# Altium integrated library Xilinx XC4000 E.IntLib: 265 symbols (part 8 of 22)
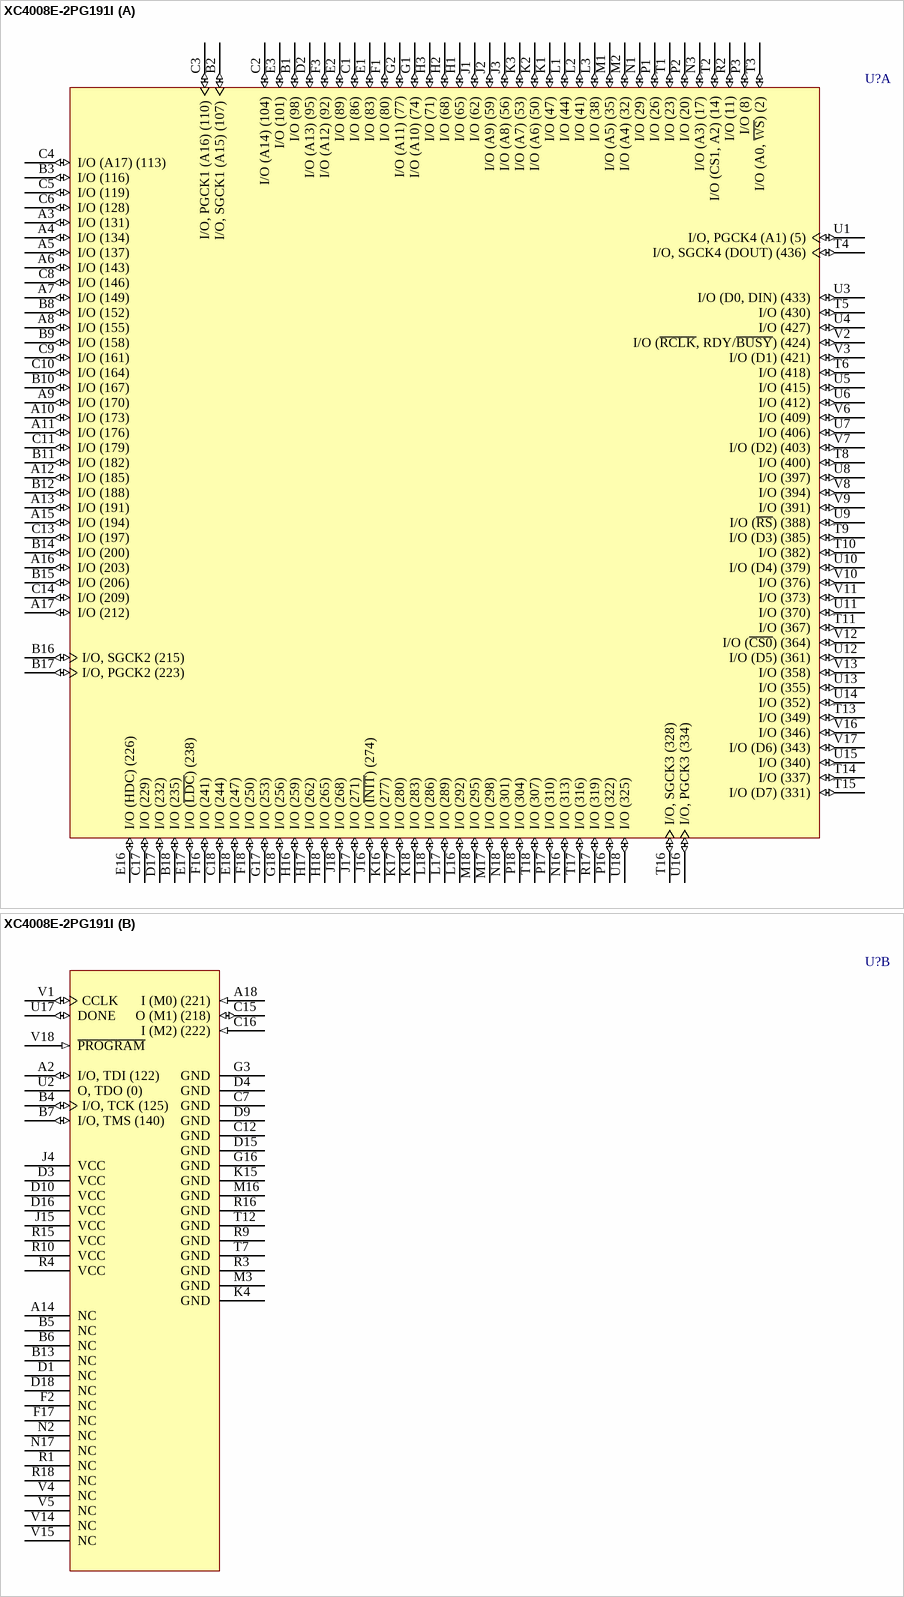
[diagram p279: symbol XC4008E-2PG191I]

## XC4008E-2PG191I
designator U?
XC4000E FPGA, 191-Pin PGA, Industrial Grade; PackageDocument: ver1.1, Apr-2001; Published: 28-Feb-2003; DatasheetDocument: (v1.6) May-99; PackageReference: PG191; Publisher: Altium Limited
footprint PG191 (191-Pin Ceramic Pin Grid Array (PG191))
part A pins: A3 I/O (131) (io), A4 I/O (134) (io), A5 I/O (137) (io), A6 I/O (143) (io), A7 I/O (149) (io), A8 I/O (155) (io), A9 I/O (170) (io), A10 I/O (173) (io), A11 I/O (176) (io), A12 I/O (185) (io), A13 I/O (191) (io), A15 I/O (194) (io), A16 I/O (203) (io), A17 I/O (212) (io), B1 I/O (98) (io), B2 I/O, SGCK1 (A15) (107) (io), B3 I/O (116) (io), B8 I/O (152) (io), B9 I/O (158) (io), B10 I/O (167) (io), B11 I/O (182) (io), B12 I/O (188) (io), B14 I/O (200) (io), B15 I/O (206) (io), B16 I/O, SGCK2 (215) (io), B17 I/O, PGCK2 (223) (io), B18 I/O (235) (io), C1 I/O (86) (io), C2 I/O (A14) (104) (io), C3 I/O, PGCK1 (A16) (110) (io), C4 I/O (A17) (113) (io), C5 I/O (119) (io), C6 I/O (128) (io), C8 I/O (146) (io), C9 I/O (161) (io), C10 I/O (164) (io), C11 I/O (179) (io), C13 I/O (197) (io), C14 I/O (209) (io), C17 I/O (229) (io), C18 I/O (244) (io), D2 I/O (A13) (95) (io), D17 I/O (232) (io), E1 I/O (83) (io), E2 I/O (89) (io), E3 I/O (101) (io), E16 I/O (HDC) (226) (io), E17 I/O (~{LDC}) (238) (io), E18 I/O (247) (io), F1 I/O (80) (io), F3 I/O (A12) (92) (io), F16 I/O (241) (io), F18 I/O (250) (io), G1 I/O (A10) (74) (io), G2 I/O (A11) (77) (io), G17 I/O (253) (io), G18 I/O (256) (io), H1 I/O (65) (io), H2 I/O (68) (io), H3 I/O (71) (io), H16 I/O (259) (io), H17 I/O (262) (io), H18 I/O (265) (io), J1 I/O (62) (io), J2 I/O (A9) (59) (io), J3 I/O (A8) (56) (io), J16 I/O (~{INIT}) (274) (io), J17 I/O (271) (io), J18 I/O (268) (io), K1 I/O (47) (io), K2 I/O (A6) (50) (io), K3 I/O (A7) (53) (io), K16 I/O (277) (io), K17 I/O (280) (io), K18 I/O (283) (io), L1 I/O (44) (io), L2 I/O (41) (io), L3 I/O (38) (io), L16 I/O (292) (io), L17 I/O (289) (io), L18 I/O (286) (io), M1 I/O (A5) (35) (io), M2 I/O (A4) (32) (io), M17 I/O (298) (io), M18 I/O (295) (io), N1 I/O (29) (io), N3 I/O (A3) (17) (io), N16 I/O (313) (io), N18 I/O (301) (io), P1 I/O (26) (io), P2 I/O (20) (io), P3 I/O (8) (io), P16 I/O (322) (io), P17 I/O (310) (io), P18 I/O (304) (io), R2 I/O (11) (io), R17 I/O (319) (io), T1 I/O (23) (io), T2 I/O (CS1, A2) (14) (io), T3 I/O (A0, ~{WS}) (2) (io), T4 I/O, SGCK4 (DOUT) (436) (io), T5 I/O (430) (io), T6 I/O (418) (io), T8 I/O (400) (io), T9 I/O (D3) (385) (io), T10 I/O (382) (io), T11 I/O (367) (io), T13 I/O (349) (io), T14 I/O (337) (io), T15 I/O (D7) (331) (io), T16 I/O, SGCK3 (328) (io), T17 I/O (316) (io), T18 I/O (307) (io), U1 I/O, PGCK4 (A1) (5) (io), U3 I/O (D0, DIN) (433) (io), U4 I/O (427) (io), U5 I/O (415) (io), U6 I/O (412) (io), U7 I/O (406) (io), U8 I/O (397) (io), U9 I/O (~{RS}) (388) (io), U10 I/O (D4) (379) (io), U11 I/O (370) (io), U12 I/O (D5) (361) (io), U13 I/O (355) (io), U14 I/O (352) (io), U15 I/O (340) (io), U16 I/O, PGCK3 (334) (io), U18 I/O (325) (io), V2 I/O (~{RCLK}, RDY/~{BUSY}) (424) (io), V3 I/O (D1) (421) (io), V6 I/O (409) (io), V7 I/O (D2) (403) (io), V8 I/O (394) (io), V9 I/O (391) (io), V10 I/O (376) (io), V11 I/O (373) (io), V12 I/O (~{CS0}) (364) (io), V13 I/O (358) (io), V16 I/O (346) (io), V17 I/O (D6) (343) (io)
part B pins: A2 I/O, TDI (122) (io), A14 NC, A18 I (M0) (221) (in), B4 I/O, TCK (125) (io), B5 NC, B6 NC, B7 I/O, TMS (140) (io), B13 NC, C7 GND (power), C12 GND (power), C15 O (M1) (218) (io), C16 I (M2) (222) (in), D1 NC, D3 VCC (power), D4 GND (power), D9 GND (power), D10 VCC (power), D15 GND (power), D16 VCC (power), D18 NC, F2 NC, F17 NC, G3 GND (power), G16 GND (power), J4 VCC (power), J15 VCC (power), K4 GND (power), K15 GND (power), M3 GND (power), M16 GND (power), N2 NC, N17 NC, R1 NC, R3 GND (power), R4 VCC (power), R9 GND (power), R10 VCC (power), R15 VCC (power), R16 GND (power), R18 NC, T7 GND (power), T12 GND (power), U2 O, TDO (0) (hiz), U17 DONE (io), V1 CCLK (io), V4 NC, V5 NC, V14 NC, V15 NC, V18 ~{PROGRAM} (in)

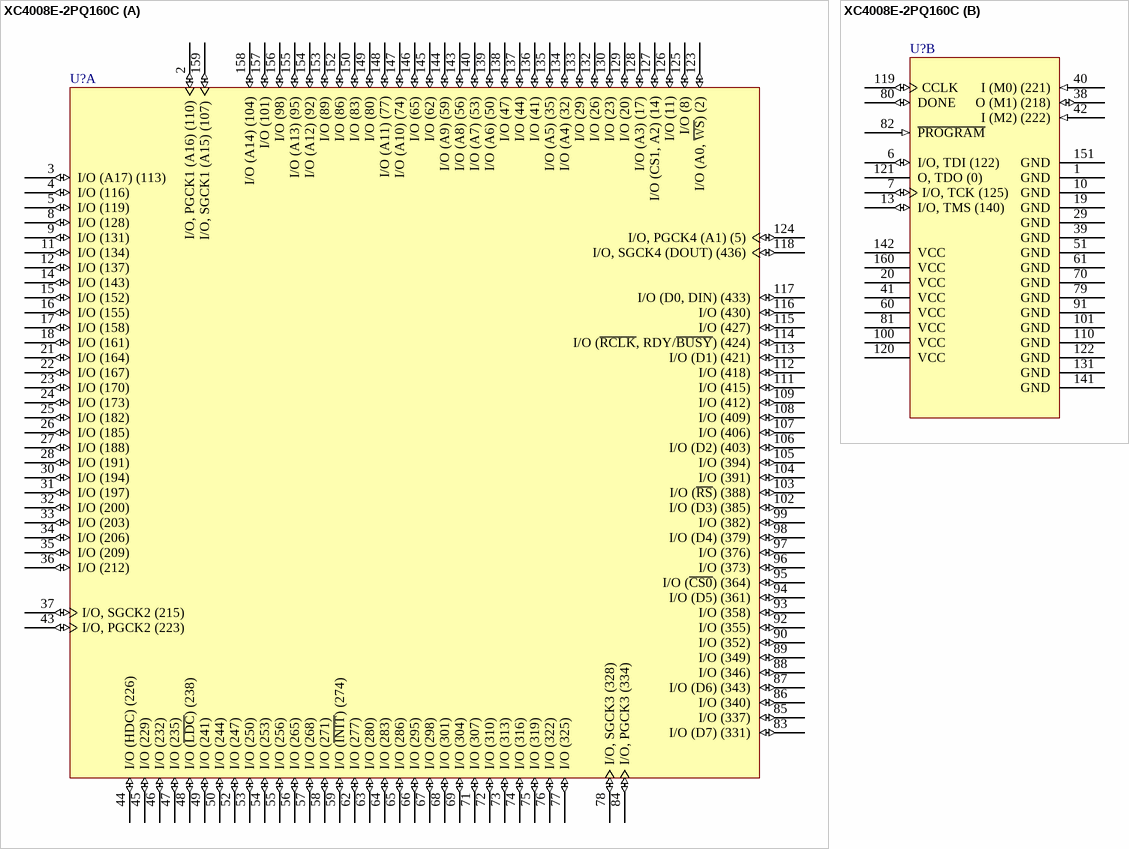
[diagram p74: symbol XC4008E-2PQ160C]

## XC4008E-2PQ160C
designator U?
XC4000E FPGA, 160-Pin PQFP, Commercial Grade; PackageDocument: ver1.1, Oct-2002; Published: 28-Feb-2003; DatasheetDocument: (v1.6) May-99; PackageReference: PQ160; Publisher: Altium Limited; Code_JEDEC: MS-022-DD1
footprint PQ160 (160-Pin Plastic Quad Flat Pack (PQ160))
part A pins: 2 I/O, PGCK1 (A16) (110) (io), 3 I/O (A17) (113) (io), 4 I/O (116) (io), 5 I/O (119) (io), 8 I/O (128) (io), 9 I/O (131) (io), 11 I/O (134) (io), 12 I/O (137) (io), 14 I/O (143) (io), 15 I/O (152) (io), 16 I/O (155) (io), 17 I/O (158) (io), 18 I/O (161) (io), 21 I/O (164) (io), 22 I/O (167) (io), 23 I/O (170) (io), 24 I/O (173) (io), 25 I/O (182) (io), 26 I/O (185) (io), 27 I/O (188) (io), 28 I/O (191) (io), 30 I/O (194) (io), 31 I/O (197) (io), 32 I/O (200) (io), 33 I/O (203) (io), 34 I/O (206) (io), 35 I/O (209) (io), 36 I/O (212) (io), 37 I/O, SGCK2 (215) (io), 43 I/O, PGCK2 (223) (io), 44 I/O (HDC) (226) (io), 45 I/O (229) (io), 46 I/O (232) (io), 47 I/O (235) (io), 48 I/O (~{LDC}) (238) (io), 49 I/O (241) (io), 50 I/O (244) (io), 52 I/O (247) (io), 53 I/O (250) (io), 54 I/O (253) (io), 55 I/O (256) (io), 56 I/O (265) (io), 57 I/O (268) (io), 58 I/O (271) (io), 59 I/O (~{INIT}) (274) (io), 62 I/O (277) (io), 63 I/O (280) (io), 64 I/O (283) (io), 65 I/O (286) (io), 66 I/O (295) (io), 67 I/O (298) (io), 68 I/O (301) (io), 69 I/O (304) (io), 71 I/O (307) (io), 72 I/O (310) (io), 73 I/O (313) (io), 74 I/O (316) (io), 75 I/O (319) (io), 76 I/O (322) (io), 77 I/O (325) (io), 78 I/O, SGCK3 (328) (io), 83 I/O (D7) (331) (io), 84 I/O, PGCK3 (334) (io), 85 I/O (337) (io), 86 I/O (340) (io), 87 I/O (D6) (343) (io), 88 I/O (346) (io), 89 I/O (349) (io), 90 I/O (352) (io), 92 I/O (355) (io), 93 I/O (358) (io), 94 I/O (D5) (361) (io), 95 I/O (~{CS0}) (364) (io), 96 I/O (373) (io), 97 I/O (376) (io), 98 I/O (D4) (379) (io), 99 I/O (382) (io), 102 I/O (D3) (385) (io), 103 I/O (~{RS}) (388) (io), 104 I/O (391) (io), 105 I/O (394) (io), 106 I/O (D2) (403) (io), 107 I/O (406) (io), 108 I/O (409) (io), 109 I/O (412) (io), 111 I/O (415) (io), 112 I/O (418) (io), 113 I/O (D1) (421) (io), 114 I/O (~{RCLK}, RDY/~{BUSY}) (424) (io), 115 I/O (427) (io), 116 I/O (430) (io), 117 I/O (D0, DIN) (433) (io), 118 I/O, SGCK4 (DOUT) (436) (io), 123 I/O (A0, ~{WS}) (2) (io), 124 I/O, PGCK4 (A1) (5) (io), 125 I/O (8) (io), 126 I/O (11) (io), 127 I/O (CS1, A2) (14) (io), 128 I/O (A3) (17) (io), 129 I/O (20) (io), 130 I/O (23) (io), 132 I/O (26) (io), 133 I/O (29) (io), 134 I/O (A4) (32) (io), 135 I/O (A5) (35) (io), 136 I/O (41) (io), 137 I/O (44) (io), 138 I/O (47) (io), 139 I/O (A6) (50) (io), 140 I/O (A7) (53) (io), 143 I/O (A8) (56) (io), 144 I/O (A9) (59) (io), 145 I/O (62) (io), 146 I/O (65) (io), 147 I/O (A10) (74) (io), 148 I/O (A11) (77) (io), 149 I/O (80) (io), 150 I/O (83) (io), 152 I/O (86) (io), 153 I/O (89) (io), 154 I/O (A12) (92) (io), 155 I/O (A13) (95) (io), 156 I/O (98) (io), 157 I/O (101) (io), 158 I/O (A14) (104) (io), 159 I/O, SGCK1 (A15) (107) (io)
part B pins: 1 GND (power), 6 I/O, TDI (122) (io), 7 I/O, TCK (125) (io), 10 GND (power), 13 I/O, TMS (140) (io), 19 GND (power), 20 VCC (power), 29 GND (power), 38 O (M1) (218) (io), 39 GND (power), 40 I (M0) (221) (in), 41 VCC (power), 42 I (M2) (222) (in), 51 GND (power), 60 VCC (power), 61 GND (power), 70 GND (power), 79 GND (power), 80 DONE (io), 81 VCC (power), 82 ~{PROGRAM} (in), 91 GND (power), 100 VCC (power), 101 GND (power), 110 GND (power), 119 CCLK (io), 120 VCC (power), 121 O, TDO (0) (hiz), 122 GND (power), 131 GND (power), 141 GND (power), 142 VCC (power), 151 GND (power), 160 VCC (power)

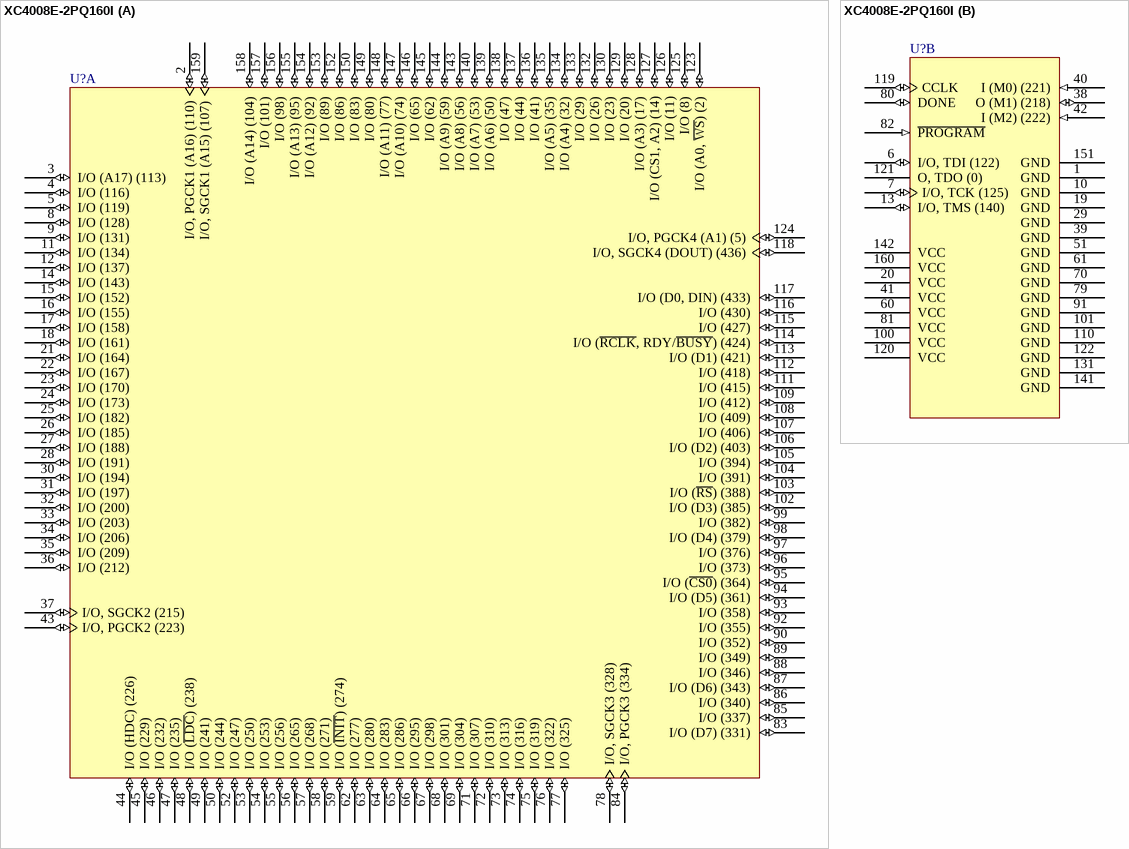
[diagram p75: symbol XC4008E-2PQ160I]

## XC4008E-2PQ160I
designator U?
XC4000E FPGA, 160-Pin PQFP, Industrial Grade; PackageDocument: ver1.1, Oct-2002; Published: 28-Feb-2003; DatasheetDocument: (v1.6) May-99; PackageReference: PQ160; Publisher: Altium Limited; Code_JEDEC: MS-022-DD1
footprint PQ160 (160-Pin Plastic Quad Flat Pack (PQ160))
part A pins: 2 I/O, PGCK1 (A16) (110) (io), 3 I/O (A17) (113) (io), 4 I/O (116) (io), 5 I/O (119) (io), 8 I/O (128) (io), 9 I/O (131) (io), 11 I/O (134) (io), 12 I/O (137) (io), 14 I/O (143) (io), 15 I/O (152) (io), 16 I/O (155) (io), 17 I/O (158) (io), 18 I/O (161) (io), 21 I/O (164) (io), 22 I/O (167) (io), 23 I/O (170) (io), 24 I/O (173) (io), 25 I/O (182) (io), 26 I/O (185) (io), 27 I/O (188) (io), 28 I/O (191) (io), 30 I/O (194) (io), 31 I/O (197) (io), 32 I/O (200) (io), 33 I/O (203) (io), 34 I/O (206) (io), 35 I/O (209) (io), 36 I/O (212) (io), 37 I/O, SGCK2 (215) (io), 43 I/O, PGCK2 (223) (io), 44 I/O (HDC) (226) (io), 45 I/O (229) (io), 46 I/O (232) (io), 47 I/O (235) (io), 48 I/O (~{LDC}) (238) (io), 49 I/O (241) (io), 50 I/O (244) (io), 52 I/O (247) (io), 53 I/O (250) (io), 54 I/O (253) (io), 55 I/O (256) (io), 56 I/O (265) (io), 57 I/O (268) (io), 58 I/O (271) (io), 59 I/O (~{INIT}) (274) (io), 62 I/O (277) (io), 63 I/O (280) (io), 64 I/O (283) (io), 65 I/O (286) (io), 66 I/O (295) (io), 67 I/O (298) (io), 68 I/O (301) (io), 69 I/O (304) (io), 71 I/O (307) (io), 72 I/O (310) (io), 73 I/O (313) (io), 74 I/O (316) (io), 75 I/O (319) (io), 76 I/O (322) (io), 77 I/O (325) (io), 78 I/O, SGCK3 (328) (io), 83 I/O (D7) (331) (io), 84 I/O, PGCK3 (334) (io), 85 I/O (337) (io), 86 I/O (340) (io), 87 I/O (D6) (343) (io), 88 I/O (346) (io), 89 I/O (349) (io), 90 I/O (352) (io), 92 I/O (355) (io), 93 I/O (358) (io), 94 I/O (D5) (361) (io), 95 I/O (~{CS0}) (364) (io), 96 I/O (373) (io), 97 I/O (376) (io), 98 I/O (D4) (379) (io), 99 I/O (382) (io), 102 I/O (D3) (385) (io), 103 I/O (~{RS}) (388) (io), 104 I/O (391) (io), 105 I/O (394) (io), 106 I/O (D2) (403) (io), 107 I/O (406) (io), 108 I/O (409) (io), 109 I/O (412) (io), 111 I/O (415) (io), 112 I/O (418) (io), 113 I/O (D1) (421) (io), 114 I/O (~{RCLK}, RDY/~{BUSY}) (424) (io), 115 I/O (427) (io), 116 I/O (430) (io), 117 I/O (D0, DIN) (433) (io), 118 I/O, SGCK4 (DOUT) (436) (io), 123 I/O (A0, ~{WS}) (2) (io), 124 I/O, PGCK4 (A1) (5) (io), 125 I/O (8) (io), 126 I/O (11) (io), 127 I/O (CS1, A2) (14) (io), 128 I/O (A3) (17) (io), 129 I/O (20) (io), 130 I/O (23) (io), 132 I/O (26) (io), 133 I/O (29) (io), 134 I/O (A4) (32) (io), 135 I/O (A5) (35) (io), 136 I/O (41) (io), 137 I/O (44) (io), 138 I/O (47) (io), 139 I/O (A6) (50) (io), 140 I/O (A7) (53) (io), 143 I/O (A8) (56) (io), 144 I/O (A9) (59) (io), 145 I/O (62) (io), 146 I/O (65) (io), 147 I/O (A10) (74) (io), 148 I/O (A11) (77) (io), 149 I/O (80) (io), 150 I/O (83) (io), 152 I/O (86) (io), 153 I/O (89) (io), 154 I/O (A12) (92) (io), 155 I/O (A13) (95) (io), 156 I/O (98) (io), 157 I/O (101) (io), 158 I/O (A14) (104) (io), 159 I/O, SGCK1 (A15) (107) (io)
part B pins: 1 GND (power), 6 I/O, TDI (122) (io), 7 I/O, TCK (125) (io), 10 GND (power), 13 I/O, TMS (140) (io), 19 GND (power), 20 VCC (power), 29 GND (power), 38 O (M1) (218) (io), 39 GND (power), 40 I (M0) (221) (in), 41 VCC (power), 42 I (M2) (222) (in), 51 GND (power), 60 VCC (power), 61 GND (power), 70 GND (power), 79 GND (power), 80 DONE (io), 81 VCC (power), 82 ~{PROGRAM} (in), 91 GND (power), 100 VCC (power), 101 GND (power), 110 GND (power), 119 CCLK (io), 120 VCC (power), 121 O, TDO (0) (hiz), 122 GND (power), 131 GND (power), 141 GND (power), 142 VCC (power), 151 GND (power), 160 VCC (power)

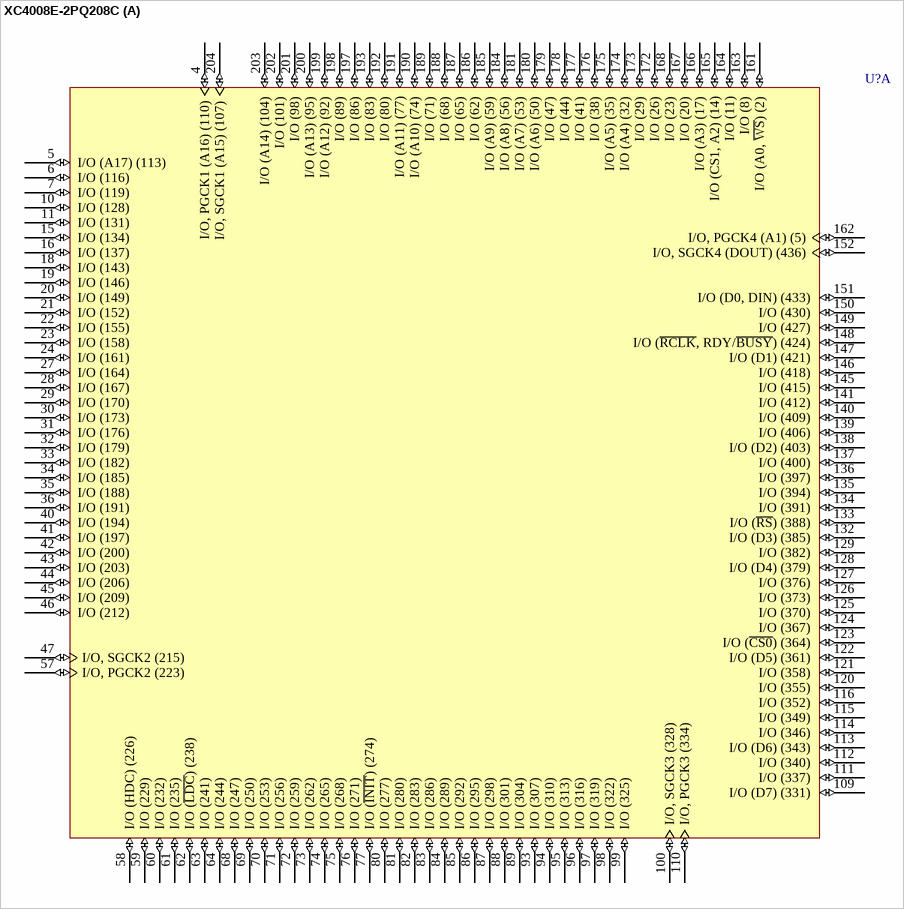
[diagram p76: symbol XC4008E-2PQ208C]

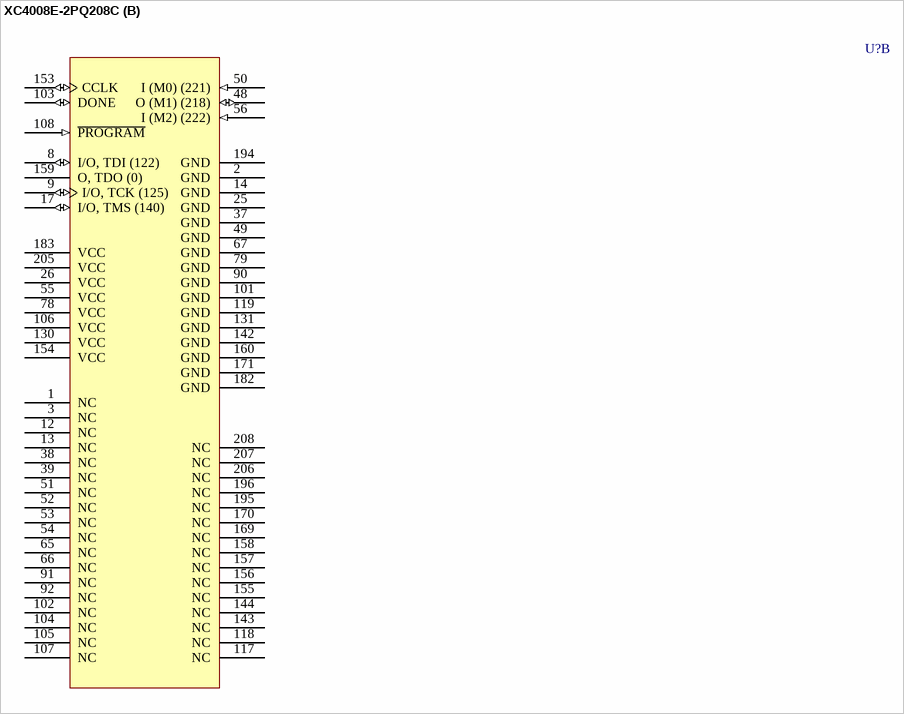
[diagram p77: symbol XC4008E-2PQ208C]

## XC4008E-2PQ208C
designator U?
XC4000E FPGA, 208-Pin PQFP, Commercial Grade; PackageDocument: ver1.1, Oct-2002; Published: 28-Feb-2003; DatasheetDocument: (v1.6) May-99; PackageReference: PQ208; Publisher: Altium Limited; Code_JEDEC: MS-029-FA-1
footprint PQ208 (208-Pin Plastic Quad Flat Pack (PQ208))
part A pins: 4 I/O, PGCK1 (A16) (110) (io), 5 I/O (A17) (113) (io), 6 I/O (116) (io), 7 I/O (119) (io), 10 I/O (128) (io), 11 I/O (131) (io), 15 I/O (134) (io), 16 I/O (137) (io), 18 I/O (143) (io), 19 I/O (146) (io), 20 I/O (149) (io), 21 I/O (152) (io), 22 I/O (155) (io), 23 I/O (158) (io), 24 I/O (161) (io), 27 I/O (164) (io), 28 I/O (167) (io), 29 I/O (170) (io), 30 I/O (173) (io), 31 I/O (176) (io), 32 I/O (179) (io), 33 I/O (182) (io), 34 I/O (185) (io), 35 I/O (188) (io), 36 I/O (191) (io), 40 I/O (194) (io), 41 I/O (197) (io), 42 I/O (200) (io), 43 I/O (203) (io), 44 I/O (206) (io), 45 I/O (209) (io), 46 I/O (212) (io), 47 I/O, SGCK2 (215) (io), 57 I/O, PGCK2 (223) (io), 58 I/O (HDC) (226) (io), 59 I/O (229) (io), 60 I/O (232) (io), 61 I/O (235) (io), 62 I/O (~{LDC}) (238) (io), 63 I/O (241) (io), 64 I/O (244) (io), 68 I/O (247) (io), 69 I/O (250) (io), 70 I/O (253) (io), 71 I/O (256) (io), 72 I/O (259) (io), 73 I/O (262) (io), 74 I/O (265) (io), 75 I/O (268) (io), 76 I/O (271) (io), 77 I/O (~{INIT}) (274) (io), 80 I/O (277) (io), 81 I/O (280) (io), 82 I/O (283) (io), 83 I/O (286) (io), 84 I/O (289) (io), 85 I/O (292) (io), 86 I/O (295) (io), 87 I/O (298) (io), 88 I/O (301) (io), 89 I/O (304) (io), 93 I/O (307) (io), 94 I/O (310) (io), 95 I/O (313) (io), 96 I/O (316) (io), 97 I/O (319) (io), 98 I/O (322) (io), 99 I/O (325) (io), 100 I/O, SGCK3 (328) (io), 109 I/O (D7) (331) (io), 110 I/O, PGCK3 (334) (io), 111 I/O (337) (io), 112 I/O (340) (io), 113 I/O (D6) (343) (io), 114 I/O (346) (io), 115 I/O (349) (io), 116 I/O (352) (io), 120 I/O (355) (io), 121 I/O (358) (io), 122 I/O (D5) (361) (io), 123 I/O (~{CS0}) (364) (io), 124 I/O (367) (io), 125 I/O (370) (io), 126 I/O (373) (io), 127 I/O (376) (io), 128 I/O (D4) (379) (io), 129 I/O (382) (io), 132 I/O (D3) (385) (io), 133 I/O (~{RS}) (388) (io), 134 I/O (391) (io), 135 I/O (394) (io), 136 I/O (397) (io), 137 I/O (400) (io), 138 I/O (D2) (403) (io), 139 I/O (406) (io), 140 I/O (409) (io), 141 I/O (412) (io), 145 I/O (415) (io), 146 I/O (418) (io), 147 I/O (D1) (421) (io), 148 I/O (~{RCLK}, RDY/~{BUSY}) (424) (io), 149 I/O (427) (io), 150 I/O (430) (io), 151 I/O (D0, DIN) (433) (io), 152 I/O, SGCK4 (DOUT) (436) (io), 161 I/O (A0, ~{WS}) (2) (io), 162 I/O, PGCK4 (A1) (5) (io), 163 I/O (8) (io), 164 I/O (11) (io), 165 I/O (CS1, A2) (14) (io), 166 I/O (A3) (17) (io), 167 I/O (20) (io), 168 I/O (23) (io), 172 I/O (26) (io), 173 I/O (29) (io), 174 I/O (A4) (32) (io), 175 I/O (A5) (35) (io), 176 I/O (38) (io), 177 I/O (41) (io), 178 I/O (44) (io), 179 I/O (47) (io), 180 I/O (A6) (50) (io), 181 I/O (A7) (53) (io), 184 I/O (A8) (56) (io), 185 I/O (A9) (59) (io), 186 I/O (62) (io), 187 I/O (65) (io), 188 I/O (68) (io), 189 I/O (71) (io), 190 I/O (A10) (74) (io), 191 I/O (A11) (77) (io), 192 I/O (80) (io), 193 I/O (83) (io), 197 I/O (86) (io), 198 I/O (89) (io), 199 I/O (A12) (92) (io), 200 I/O (A13) (95) (io), 201 I/O (98) (io), 202 I/O (101) (io), 203 I/O (A14) (104) (io), 204 I/O, SGCK1 (A15) (107) (io)
part B pins: 1 NC, 2 GND (power), 3 NC, 8 I/O, TDI (122) (io), 9 I/O, TCK (125) (io), 12 NC, 13 NC, 14 GND (power), 17 I/O, TMS (140) (io), 25 GND (power), 26 VCC (power), 37 GND (power), 38 NC, 39 NC, 48 O (M1) (218) (io), 49 GND (power), 50 I (M0) (221) (in), 51 NC, 52 NC, 53 NC, 54 NC, 55 VCC (power), 56 I (M2) (222) (in), 65 NC, 66 NC, 67 GND (power), 78 VCC (power), 79 GND (power), 90 GND (power), 91 NC, 92 NC, 101 GND (power), 102 NC, 103 DONE (io), 104 NC, 105 NC, 106 VCC (power), 107 NC, 108 ~{PROGRAM} (in), 117 NC, 118 NC, 119 GND (power), 130 VCC (power), 131 GND (power), 142 GND (power), 143 NC, 144 NC, 153 CCLK (io), 154 VCC (power), 155 NC, 156 NC, 157 NC, 158 NC, 159 O, TDO (0) (hiz), 160 GND (power), 169 NC, 170 NC, 171 GND (power), 182 GND (power), 183 VCC (power), 194 GND (power), 195 NC, 196 NC, 205 VCC (power), 206 NC, 207 NC, 208 NC

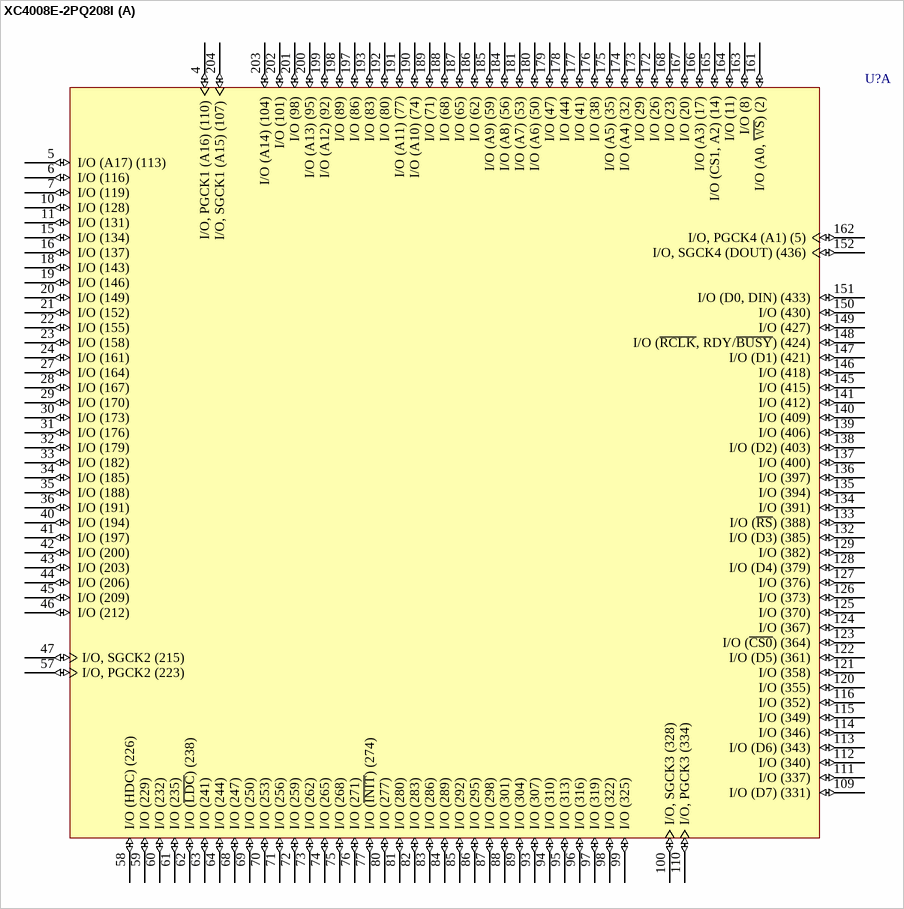
[diagram p78: symbol XC4008E-2PQ208I]

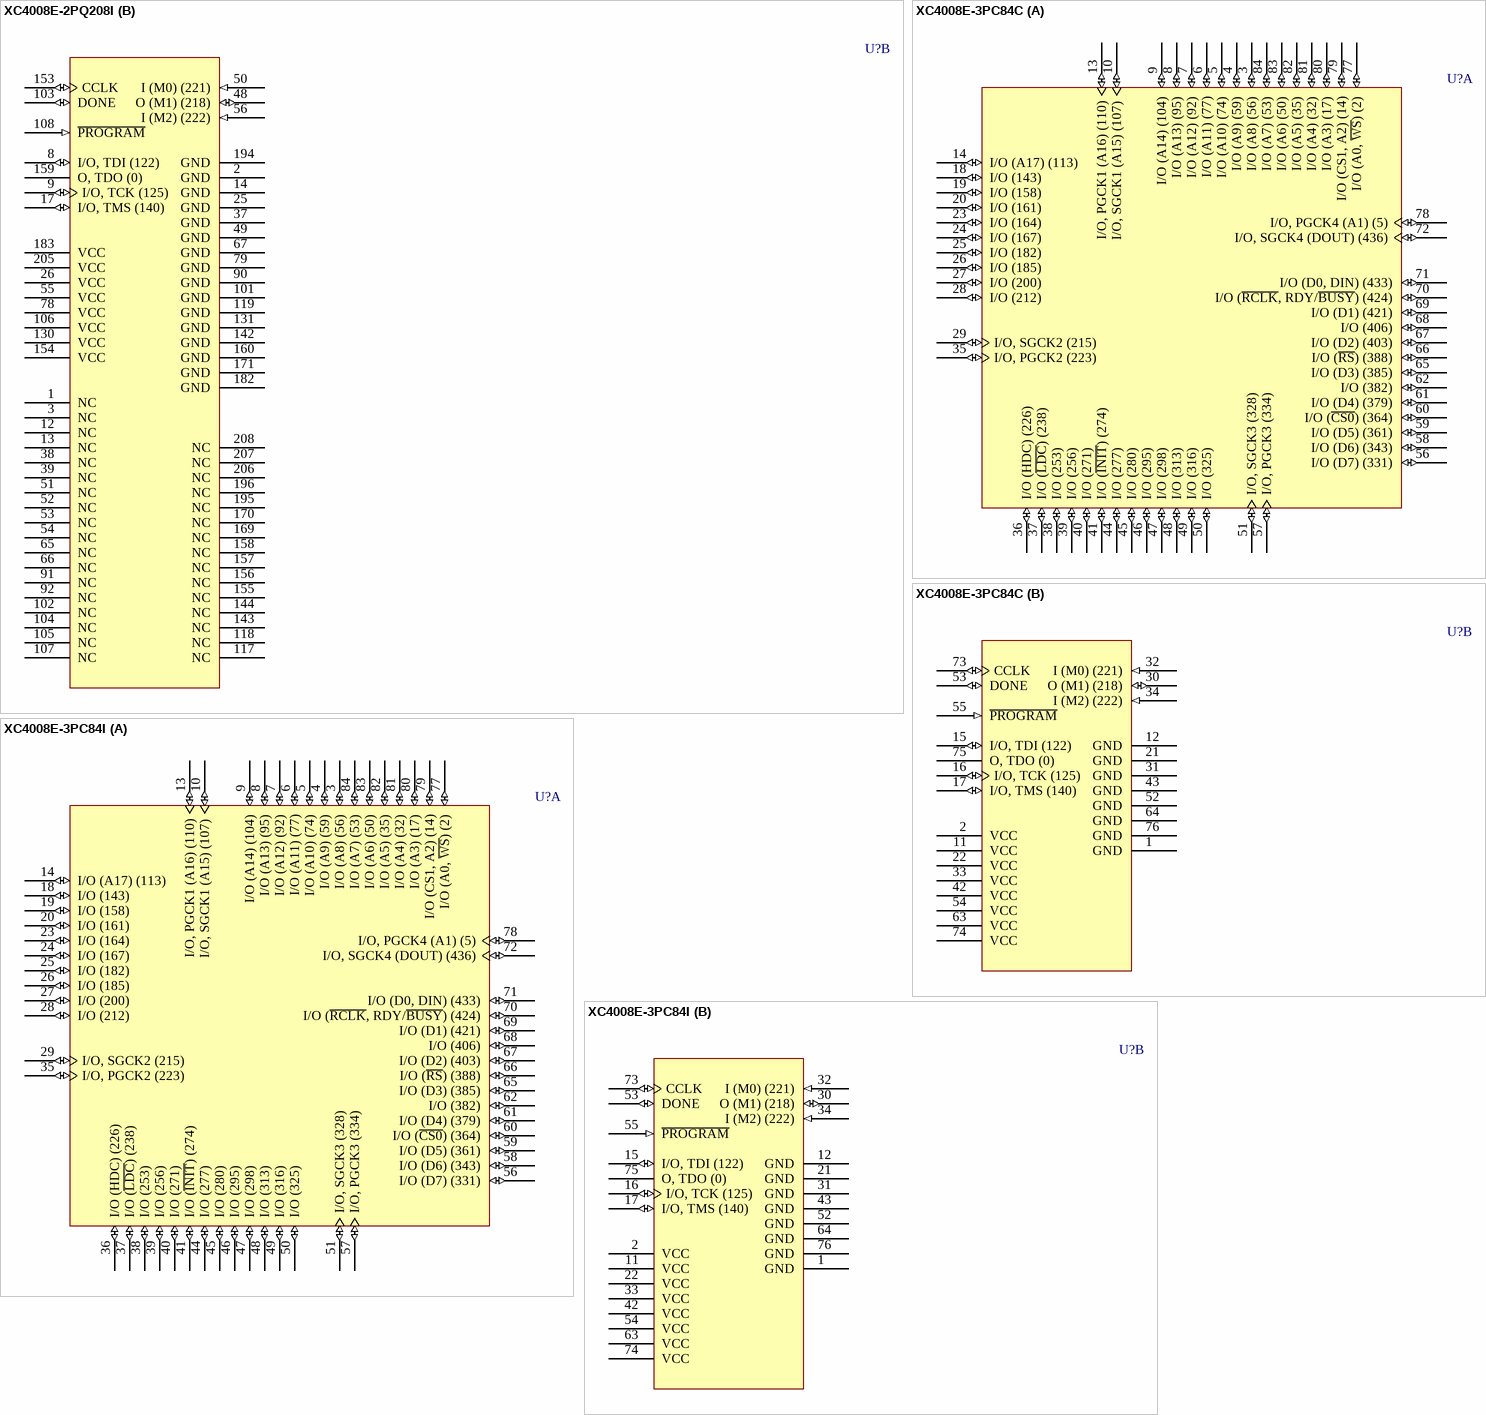
[diagram p79: symbols XC4008E-2PQ208I to XC4008E-3PC84I]

## XC4008E-2PQ208I
designator U?
XC4000E FPGA, 208-Pin PQFP, Industrial Grade; PackageDocument: ver1.1, Oct-2002; Published: 28-Feb-2003; DatasheetDocument: (v1.6) May-99; PackageReference: PQ208; Publisher: Altium Limited; Code_JEDEC: MS-029-FA-1
footprint PQ208 (208-Pin Plastic Quad Flat Pack (PQ208))
part A pins: 4 I/O, PGCK1 (A16) (110) (io), 5 I/O (A17) (113) (io), 6 I/O (116) (io), 7 I/O (119) (io), 10 I/O (128) (io), 11 I/O (131) (io), 15 I/O (134) (io), 16 I/O (137) (io), 18 I/O (143) (io), 19 I/O (146) (io), 20 I/O (149) (io), 21 I/O (152) (io), 22 I/O (155) (io), 23 I/O (158) (io), 24 I/O (161) (io), 27 I/O (164) (io), 28 I/O (167) (io), 29 I/O (170) (io), 30 I/O (173) (io), 31 I/O (176) (io), 32 I/O (179) (io), 33 I/O (182) (io), 34 I/O (185) (io), 35 I/O (188) (io), 36 I/O (191) (io), 40 I/O (194) (io), 41 I/O (197) (io), 42 I/O (200) (io), 43 I/O (203) (io), 44 I/O (206) (io), 45 I/O (209) (io), 46 I/O (212) (io), 47 I/O, SGCK2 (215) (io), 57 I/O, PGCK2 (223) (io), 58 I/O (HDC) (226) (io), 59 I/O (229) (io), 60 I/O (232) (io), 61 I/O (235) (io), 62 I/O (~{LDC}) (238) (io), 63 I/O (241) (io), 64 I/O (244) (io), 68 I/O (247) (io), 69 I/O (250) (io), 70 I/O (253) (io), 71 I/O (256) (io), 72 I/O (259) (io), 73 I/O (262) (io), 74 I/O (265) (io), 75 I/O (268) (io), 76 I/O (271) (io), 77 I/O (~{INIT}) (274) (io), 80 I/O (277) (io), 81 I/O (280) (io), 82 I/O (283) (io), 83 I/O (286) (io), 84 I/O (289) (io), 85 I/O (292) (io), 86 I/O (295) (io), 87 I/O (298) (io), 88 I/O (301) (io), 89 I/O (304) (io), 93 I/O (307) (io), 94 I/O (310) (io), 95 I/O (313) (io), 96 I/O (316) (io), 97 I/O (319) (io), 98 I/O (322) (io), 99 I/O (325) (io), 100 I/O, SGCK3 (328) (io), 109 I/O (D7) (331) (io), 110 I/O, PGCK3 (334) (io), 111 I/O (337) (io), 112 I/O (340) (io), 113 I/O (D6) (343) (io), 114 I/O (346) (io), 115 I/O (349) (io), 116 I/O (352) (io), 120 I/O (355) (io), 121 I/O (358) (io), 122 I/O (D5) (361) (io), 123 I/O (~{CS0}) (364) (io), 124 I/O (367) (io), 125 I/O (370) (io), 126 I/O (373) (io), 127 I/O (376) (io), 128 I/O (D4) (379) (io), 129 I/O (382) (io), 132 I/O (D3) (385) (io), 133 I/O (~{RS}) (388) (io), 134 I/O (391) (io), 135 I/O (394) (io), 136 I/O (397) (io), 137 I/O (400) (io), 138 I/O (D2) (403) (io), 139 I/O (406) (io), 140 I/O (409) (io), 141 I/O (412) (io), 145 I/O (415) (io), 146 I/O (418) (io), 147 I/O (D1) (421) (io), 148 I/O (~{RCLK}, RDY/~{BUSY}) (424) (io), 149 I/O (427) (io), 150 I/O (430) (io), 151 I/O (D0, DIN) (433) (io), 152 I/O, SGCK4 (DOUT) (436) (io), 161 I/O (A0, ~{WS}) (2) (io), 162 I/O, PGCK4 (A1) (5) (io), 163 I/O (8) (io), 164 I/O (11) (io), 165 I/O (CS1, A2) (14) (io), 166 I/O (A3) (17) (io), 167 I/O (20) (io), 168 I/O (23) (io), 172 I/O (26) (io), 173 I/O (29) (io), 174 I/O (A4) (32) (io), 175 I/O (A5) (35) (io), 176 I/O (38) (io), 177 I/O (41) (io), 178 I/O (44) (io), 179 I/O (47) (io), 180 I/O (A6) (50) (io), 181 I/O (A7) (53) (io), 184 I/O (A8) (56) (io), 185 I/O (A9) (59) (io), 186 I/O (62) (io), 187 I/O (65) (io), 188 I/O (68) (io), 189 I/O (71) (io), 190 I/O (A10) (74) (io), 191 I/O (A11) (77) (io), 192 I/O (80) (io), 193 I/O (83) (io), 197 I/O (86) (io), 198 I/O (89) (io), 199 I/O (A12) (92) (io), 200 I/O (A13) (95) (io), 201 I/O (98) (io), 202 I/O (101) (io), 203 I/O (A14) (104) (io), 204 I/O, SGCK1 (A15) (107) (io)
part B pins: 1 NC, 2 GND (power), 3 NC, 8 I/O, TDI (122) (io), 9 I/O, TCK (125) (io), 12 NC, 13 NC, 14 GND (power), 17 I/O, TMS (140) (io), 25 GND (power), 26 VCC (power), 37 GND (power), 38 NC, 39 NC, 48 O (M1) (218) (io), 49 GND (power), 50 I (M0) (221) (in), 51 NC, 52 NC, 53 NC, 54 NC, 55 VCC (power), 56 I (M2) (222) (in), 65 NC, 66 NC, 67 GND (power), 78 VCC (power), 79 GND (power), 90 GND (power), 91 NC, 92 NC, 101 GND (power), 102 NC, 103 DONE (io), 104 NC, 105 NC, 106 VCC (power), 107 NC, 108 ~{PROGRAM} (in), 117 NC, 118 NC, 119 GND (power), 130 VCC (power), 131 GND (power), 142 GND (power), 143 NC, 144 NC, 153 CCLK (io), 154 VCC (power), 155 NC, 156 NC, 157 NC, 158 NC, 159 O, TDO (0) (hiz), 160 GND (power), 169 NC, 170 NC, 171 GND (power), 182 GND (power), 183 VCC (power), 194 GND (power), 195 NC, 196 NC, 205 VCC (power), 206 NC, 207 NC, 208 NC

## XC4008E-3PC84C
designator U?
XC4000E FPGA, 84-Pin PLCC, Commercial Grade; PackageDocument: ver1.0, Jun-2000; Published: 28-Feb-2003; DatasheetDocument: (v1.6) May-99; PackageReference: PC84; Publisher: Altium Limited; Code_JEDEC: MS-047; Code_IPC: PLCC-84
footprint PC84 (84-Pin Plastic Leaded Chip Carrier (PC84))
part A pins: 3 I/O (A8) (56) (io), 4 I/O (A9) (59) (io), 5 I/O (A10) (74) (io), 6 I/O (A11) (77) (io), 7 I/O (A12) (92) (io), 8 I/O (A13) (95) (io), 9 I/O (A14) (104) (io), 10 I/O, SGCK1 (A15) (107) (io), 13 I/O, PGCK1 (A16) (110) (io), 14 I/O (A17) (113) (io), 18 I/O (143) (io), 19 I/O (158) (io), 20 I/O (161) (io), 23 I/O (164) (io), 24 I/O (167) (io), 25 I/O (182) (io), 26 I/O (185) (io), 27 I/O (200) (io), 28 I/O (212) (io), 29 I/O, SGCK2 (215) (io), 35 I/O, PGCK2 (223) (io), 36 I/O (HDC) (226) (io), 37 I/O (~{LDC}) (238) (io), 38 I/O (253) (io), 39 I/O (256) (io), 40 I/O (271) (io), 41 I/O (~{INIT}) (274) (io), 44 I/O (277) (io), 45 I/O (280) (io), 46 I/O (295) (io), 47 I/O (298) (io), 48 I/O (313) (io), 49 I/O (316) (io), 50 I/O (325) (io), 51 I/O, SGCK3 (328) (io), 56 I/O (D7) (331) (io), 57 I/O, PGCK3 (334) (io), 58 I/O (D6) (343) (io), 59 I/O (D5) (361) (io), 60 I/O (~{CS0}) (364) (io), 61 I/O (D4) (379) (io), 62 I/O (382) (io), 65 I/O (D3) (385) (io), 66 I/O (~{RS}) (388) (io), 67 I/O (D2) (403) (io), 68 I/O (406) (io), 69 I/O (D1) (421) (io), 70 I/O (~{RCLK}, RDY/~{BUSY}) (424) (io), 71 I/O (D0, DIN) (433) (io), 72 I/O, SGCK4 (DOUT) (436) (io), 77 I/O (A0, ~{WS}) (2) (io), 78 I/O, PGCK4 (A1) (5) (io), 79 I/O (CS1, A2) (14) (io), 80 I/O (A3) (17) (io), 81 I/O (A4) (32) (io), 82 I/O (A5) (35) (io), 83 I/O (A6) (50) (io), 84 I/O (A7) (53) (io)
part B pins: 1 GND (power), 2 VCC (power), 11 VCC (power), 12 GND (power), 15 I/O, TDI (122) (io), 16 I/O, TCK (125) (io), 17 I/O, TMS (140) (io), 21 GND (power), 22 VCC (power), 30 O (M1) (218) (io), 31 GND (power), 32 I (M0) (221) (in), 33 VCC (power), 34 I (M2) (222) (in), 42 VCC (power), 43 GND (power), 52 GND (power), 53 DONE (io), 54 VCC (power), 55 ~{PROGRAM} (in), 63 VCC (power), 64 GND (power), 73 CCLK (io), 74 VCC (power), 75 O, TDO (0) (hiz), 76 GND (power)

## XC4008E-3PC84I
designator U?
XC4000E FPGA, 84-Pin PLCC, Industrial Grade; PackageDocument: ver1.0, Jun-2000; Published: 28-Feb-2003; DatasheetDocument: (v1.6) May-99; PackageReference: PC84; Publisher: Altium Limited; Code_JEDEC: MS-047; Code_IPC: PLCC-84
footprint PC84 (84-Pin Plastic Leaded Chip Carrier (PC84))
part A pins: 3 I/O (A8) (56) (io), 4 I/O (A9) (59) (io), 5 I/O (A10) (74) (io), 6 I/O (A11) (77) (io), 7 I/O (A12) (92) (io), 8 I/O (A13) (95) (io), 9 I/O (A14) (104) (io), 10 I/O, SGCK1 (A15) (107) (io), 13 I/O, PGCK1 (A16) (110) (io), 14 I/O (A17) (113) (io), 18 I/O (143) (io), 19 I/O (158) (io), 20 I/O (161) (io), 23 I/O (164) (io), 24 I/O (167) (io), 25 I/O (182) (io), 26 I/O (185) (io), 27 I/O (200) (io), 28 I/O (212) (io), 29 I/O, SGCK2 (215) (io), 35 I/O, PGCK2 (223) (io), 36 I/O (HDC) (226) (io), 37 I/O (~{LDC}) (238) (io), 38 I/O (253) (io), 39 I/O (256) (io), 40 I/O (271) (io), 41 I/O (~{INIT}) (274) (io), 44 I/O (277) (io), 45 I/O (280) (io), 46 I/O (295) (io), 47 I/O (298) (io), 48 I/O (313) (io), 49 I/O (316) (io), 50 I/O (325) (io), 51 I/O, SGCK3 (328) (io), 56 I/O (D7) (331) (io), 57 I/O, PGCK3 (334) (io), 58 I/O (D6) (343) (io), 59 I/O (D5) (361) (io), 60 I/O (~{CS0}) (364) (io), 61 I/O (D4) (379) (io), 62 I/O (382) (io), 65 I/O (D3) (385) (io), 66 I/O (~{RS}) (388) (io), 67 I/O (D2) (403) (io), 68 I/O (406) (io), 69 I/O (D1) (421) (io), 70 I/O (~{RCLK}, RDY/~{BUSY}) (424) (io), 71 I/O (D0, DIN) (433) (io), 72 I/O, SGCK4 (DOUT) (436) (io), 77 I/O (A0, ~{WS}) (2) (io), 78 I/O, PGCK4 (A1) (5) (io), 79 I/O (CS1, A2) (14) (io), 80 I/O (A3) (17) (io), 81 I/O (A4) (32) (io), 82 I/O (A5) (35) (io), 83 I/O (A6) (50) (io), 84 I/O (A7) (53) (io)
part B pins: 1 GND (power), 2 VCC (power), 11 VCC (power), 12 GND (power), 15 I/O, TDI (122) (io), 16 I/O, TCK (125) (io), 17 I/O, TMS (140) (io), 21 GND (power), 22 VCC (power), 30 O (M1) (218) (io), 31 GND (power), 32 I (M0) (221) (in), 33 VCC (power), 34 I (M2) (222) (in), 42 VCC (power), 43 GND (power), 52 GND (power), 53 DONE (io), 54 VCC (power), 55 ~{PROGRAM} (in), 63 VCC (power), 64 GND (power), 73 CCLK (io), 74 VCC (power), 75 O, TDO (0) (hiz), 76 GND (power)

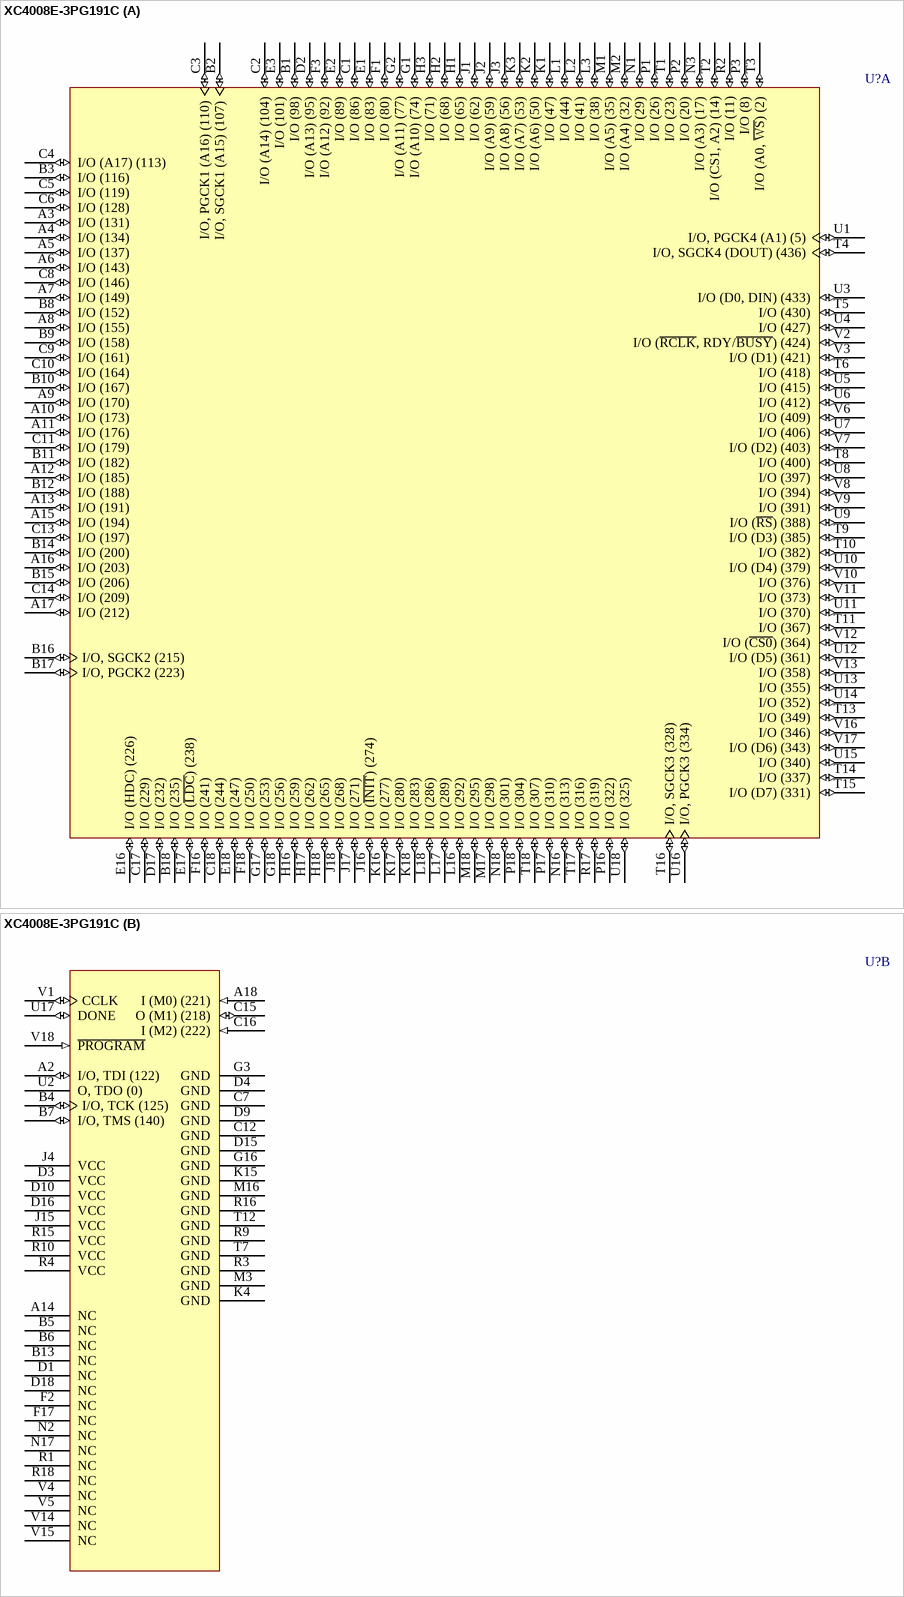
[diagram p80: symbol XC4008E-3PG191C]

## XC4008E-3PG191C
designator U?
XC4000E FPGA, 191-Pin PGA, Commercial Grade; PackageDocument: ver1.1, Apr-2001; Published: 28-Feb-2003; DatasheetDocument: (v1.6) May-99; PackageReference: PG191; Publisher: Altium Limited
footprint PG191 (191-Pin Ceramic Pin Grid Array (PG191))
part A pins: A3 I/O (131) (io), A4 I/O (134) (io), A5 I/O (137) (io), A6 I/O (143) (io), A7 I/O (149) (io), A8 I/O (155) (io), A9 I/O (170) (io), A10 I/O (173) (io), A11 I/O (176) (io), A12 I/O (185) (io), A13 I/O (191) (io), A15 I/O (194) (io), A16 I/O (203) (io), A17 I/O (212) (io), B1 I/O (98) (io), B2 I/O, SGCK1 (A15) (107) (io), B3 I/O (116) (io), B8 I/O (152) (io), B9 I/O (158) (io), B10 I/O (167) (io), B11 I/O (182) (io), B12 I/O (188) (io), B14 I/O (200) (io), B15 I/O (206) (io), B16 I/O, SGCK2 (215) (io), B17 I/O, PGCK2 (223) (io), B18 I/O (235) (io), C1 I/O (86) (io), C2 I/O (A14) (104) (io), C3 I/O, PGCK1 (A16) (110) (io), C4 I/O (A17) (113) (io), C5 I/O (119) (io), C6 I/O (128) (io), C8 I/O (146) (io), C9 I/O (161) (io), C10 I/O (164) (io), C11 I/O (179) (io), C13 I/O (197) (io), C14 I/O (209) (io), C17 I/O (229) (io), C18 I/O (244) (io), D2 I/O (A13) (95) (io), D17 I/O (232) (io), E1 I/O (83) (io), E2 I/O (89) (io), E3 I/O (101) (io), E16 I/O (HDC) (226) (io), E17 I/O (~{LDC}) (238) (io), E18 I/O (247) (io), F1 I/O (80) (io), F3 I/O (A12) (92) (io), F16 I/O (241) (io), F18 I/O (250) (io), G1 I/O (A10) (74) (io), G2 I/O (A11) (77) (io), G17 I/O (253) (io), G18 I/O (256) (io), H1 I/O (65) (io), H2 I/O (68) (io), H3 I/O (71) (io), H16 I/O (259) (io), H17 I/O (262) (io), H18 I/O (265) (io), J1 I/O (62) (io), J2 I/O (A9) (59) (io), J3 I/O (A8) (56) (io), J16 I/O (~{INIT}) (274) (io), J17 I/O (271) (io), J18 I/O (268) (io), K1 I/O (47) (io), K2 I/O (A6) (50) (io), K3 I/O (A7) (53) (io), K16 I/O (277) (io), K17 I/O (280) (io), K18 I/O (283) (io), L1 I/O (44) (io), L2 I/O (41) (io), L3 I/O (38) (io), L16 I/O (292) (io), L17 I/O (289) (io), L18 I/O (286) (io), M1 I/O (A5) (35) (io), M2 I/O (A4) (32) (io), M17 I/O (298) (io), M18 I/O (295) (io), N1 I/O (29) (io), N3 I/O (A3) (17) (io), N16 I/O (313) (io), N18 I/O (301) (io), P1 I/O (26) (io), P2 I/O (20) (io), P3 I/O (8) (io), P16 I/O (322) (io), P17 I/O (310) (io), P18 I/O (304) (io), R2 I/O (11) (io), R17 I/O (319) (io), T1 I/O (23) (io), T2 I/O (CS1, A2) (14) (io), T3 I/O (A0, ~{WS}) (2) (io), T4 I/O, SGCK4 (DOUT) (436) (io), T5 I/O (430) (io), T6 I/O (418) (io), T8 I/O (400) (io), T9 I/O (D3) (385) (io), T10 I/O (382) (io), T11 I/O (367) (io), T13 I/O (349) (io), T14 I/O (337) (io), T15 I/O (D7) (331) (io), T16 I/O, SGCK3 (328) (io), T17 I/O (316) (io), T18 I/O (307) (io), U1 I/O, PGCK4 (A1) (5) (io), U3 I/O (D0, DIN) (433) (io), U4 I/O (427) (io), U5 I/O (415) (io), U6 I/O (412) (io), U7 I/O (406) (io), U8 I/O (397) (io), U9 I/O (~{RS}) (388) (io), U10 I/O (D4) (379) (io), U11 I/O (370) (io), U12 I/O (D5) (361) (io), U13 I/O (355) (io), U14 I/O (352) (io), U15 I/O (340) (io), U16 I/O, PGCK3 (334) (io), U18 I/O (325) (io), V2 I/O (~{RCLK}, RDY/~{BUSY}) (424) (io), V3 I/O (D1) (421) (io), V6 I/O (409) (io), V7 I/O (D2) (403) (io), V8 I/O (394) (io), V9 I/O (391) (io), V10 I/O (376) (io), V11 I/O (373) (io), V12 I/O (~{CS0}) (364) (io), V13 I/O (358) (io), V16 I/O (346) (io), V17 I/O (D6) (343) (io)
part B pins: A2 I/O, TDI (122) (io), A14 NC, A18 I (M0) (221) (in), B4 I/O, TCK (125) (io), B5 NC, B6 NC, B7 I/O, TMS (140) (io), B13 NC, C7 GND (power), C12 GND (power), C15 O (M1) (218) (io), C16 I (M2) (222) (in), D1 NC, D3 VCC (power), D4 GND (power), D9 GND (power), D10 VCC (power), D15 GND (power), D16 VCC (power), D18 NC, F2 NC, F17 NC, G3 GND (power), G16 GND (power), J4 VCC (power), J15 VCC (power), K4 GND (power), K15 GND (power), M3 GND (power), M16 GND (power), N2 NC, N17 NC, R1 NC, R3 GND (power), R4 VCC (power), R9 GND (power), R10 VCC (power), R15 VCC (power), R16 GND (power), R18 NC, T7 GND (power), T12 GND (power), U2 O, TDO (0) (hiz), U17 DONE (io), V1 CCLK (io), V4 NC, V5 NC, V14 NC, V15 NC, V18 ~{PROGRAM} (in)

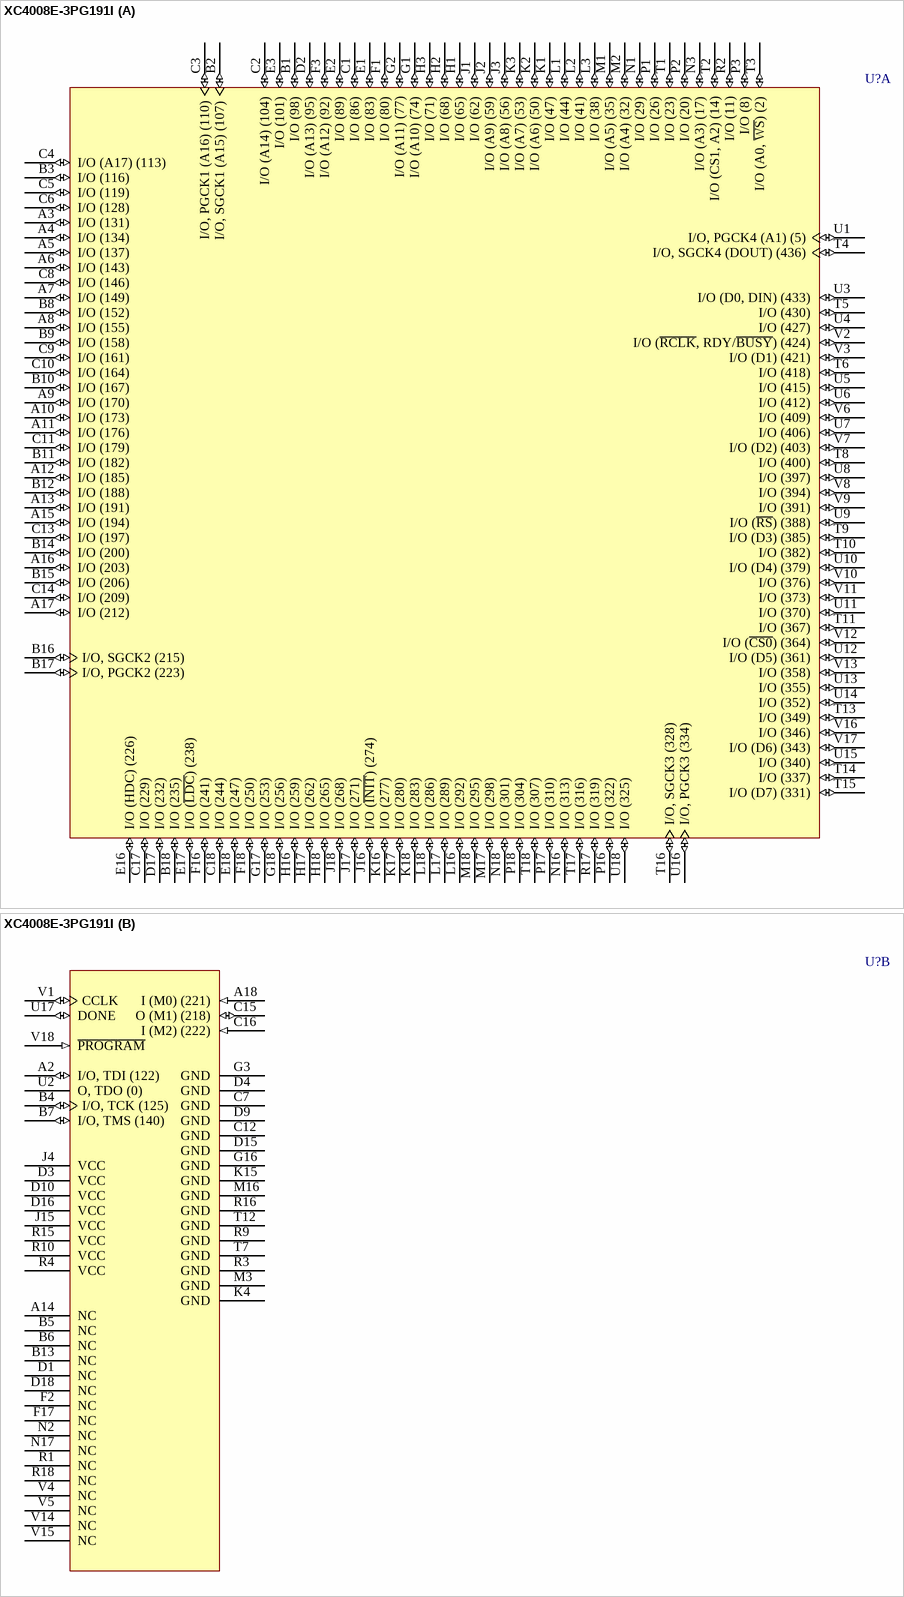
[diagram p81: symbol XC4008E-3PG191I]

## XC4008E-3PG191I
designator U?
XC4000E FPGA, 191-Pin PGA, Industrial Grade; PackageDocument: ver1.1, Apr-2001; Published: 28-Feb-2003; DatasheetDocument: (v1.6) May-99; PackageReference: PG191; Publisher: Altium Limited
footprint PG191 (191-Pin Ceramic Pin Grid Array (PG191))
part A pins: A3 I/O (131) (io), A4 I/O (134) (io), A5 I/O (137) (io), A6 I/O (143) (io), A7 I/O (149) (io), A8 I/O (155) (io), A9 I/O (170) (io), A10 I/O (173) (io), A11 I/O (176) (io), A12 I/O (185) (io), A13 I/O (191) (io), A15 I/O (194) (io), A16 I/O (203) (io), A17 I/O (212) (io), B1 I/O (98) (io), B2 I/O, SGCK1 (A15) (107) (io), B3 I/O (116) (io), B8 I/O (152) (io), B9 I/O (158) (io), B10 I/O (167) (io), B11 I/O (182) (io), B12 I/O (188) (io), B14 I/O (200) (io), B15 I/O (206) (io), B16 I/O, SGCK2 (215) (io), B17 I/O, PGCK2 (223) (io), B18 I/O (235) (io), C1 I/O (86) (io), C2 I/O (A14) (104) (io), C3 I/O, PGCK1 (A16) (110) (io), C4 I/O (A17) (113) (io), C5 I/O (119) (io), C6 I/O (128) (io), C8 I/O (146) (io), C9 I/O (161) (io), C10 I/O (164) (io), C11 I/O (179) (io), C13 I/O (197) (io), C14 I/O (209) (io), C17 I/O (229) (io), C18 I/O (244) (io), D2 I/O (A13) (95) (io), D17 I/O (232) (io), E1 I/O (83) (io), E2 I/O (89) (io), E3 I/O (101) (io), E16 I/O (HDC) (226) (io), E17 I/O (~{LDC}) (238) (io), E18 I/O (247) (io), F1 I/O (80) (io), F3 I/O (A12) (92) (io), F16 I/O (241) (io), F18 I/O (250) (io), G1 I/O (A10) (74) (io), G2 I/O (A11) (77) (io), G17 I/O (253) (io), G18 I/O (256) (io), H1 I/O (65) (io), H2 I/O (68) (io), H3 I/O (71) (io), H16 I/O (259) (io), H17 I/O (262) (io), H18 I/O (265) (io), J1 I/O (62) (io), J2 I/O (A9) (59) (io), J3 I/O (A8) (56) (io), J16 I/O (~{INIT}) (274) (io), J17 I/O (271) (io), J18 I/O (268) (io), K1 I/O (47) (io), K2 I/O (A6) (50) (io), K3 I/O (A7) (53) (io), K16 I/O (277) (io), K17 I/O (280) (io), K18 I/O (283) (io), L1 I/O (44) (io), L2 I/O (41) (io), L3 I/O (38) (io), L16 I/O (292) (io), L17 I/O (289) (io), L18 I/O (286) (io), M1 I/O (A5) (35) (io), M2 I/O (A4) (32) (io), M17 I/O (298) (io), M18 I/O (295) (io), N1 I/O (29) (io), N3 I/O (A3) (17) (io), N16 I/O (313) (io), N18 I/O (301) (io), P1 I/O (26) (io), P2 I/O (20) (io), P3 I/O (8) (io), P16 I/O (322) (io), P17 I/O (310) (io), P18 I/O (304) (io), R2 I/O (11) (io), R17 I/O (319) (io), T1 I/O (23) (io), T2 I/O (CS1, A2) (14) (io), T3 I/O (A0, ~{WS}) (2) (io), T4 I/O, SGCK4 (DOUT) (436) (io), T5 I/O (430) (io), T6 I/O (418) (io), T8 I/O (400) (io), T9 I/O (D3) (385) (io), T10 I/O (382) (io), T11 I/O (367) (io), T13 I/O (349) (io), T14 I/O (337) (io), T15 I/O (D7) (331) (io), T16 I/O, SGCK3 (328) (io), T17 I/O (316) (io), T18 I/O (307) (io), U1 I/O, PGCK4 (A1) (5) (io), U3 I/O (D0, DIN) (433) (io), U4 I/O (427) (io), U5 I/O (415) (io), U6 I/O (412) (io), U7 I/O (406) (io), U8 I/O (397) (io), U9 I/O (~{RS}) (388) (io), U10 I/O (D4) (379) (io), U11 I/O (370) (io), U12 I/O (D5) (361) (io), U13 I/O (355) (io), U14 I/O (352) (io), U15 I/O (340) (io), U16 I/O, PGCK3 (334) (io), U18 I/O (325) (io), V2 I/O (~{RCLK}, RDY/~{BUSY}) (424) (io), V3 I/O (D1) (421) (io), V6 I/O (409) (io), V7 I/O (D2) (403) (io), V8 I/O (394) (io), V9 I/O (391) (io), V10 I/O (376) (io), V11 I/O (373) (io), V12 I/O (~{CS0}) (364) (io), V13 I/O (358) (io), V16 I/O (346) (io), V17 I/O (D6) (343) (io)
part B pins: A2 I/O, TDI (122) (io), A14 NC, A18 I (M0) (221) (in), B4 I/O, TCK (125) (io), B5 NC, B6 NC, B7 I/O, TMS (140) (io), B13 NC, C7 GND (power), C12 GND (power), C15 O (M1) (218) (io), C16 I (M2) (222) (in), D1 NC, D3 VCC (power), D4 GND (power), D9 GND (power), D10 VCC (power), D15 GND (power), D16 VCC (power), D18 NC, F2 NC, F17 NC, G3 GND (power), G16 GND (power), J4 VCC (power), J15 VCC (power), K4 GND (power), K15 GND (power), M3 GND (power), M16 GND (power), N2 NC, N17 NC, R1 NC, R3 GND (power), R4 VCC (power), R9 GND (power), R10 VCC (power), R15 VCC (power), R16 GND (power), R18 NC, T7 GND (power), T12 GND (power), U2 O, TDO (0) (hiz), U17 DONE (io), V1 CCLK (io), V4 NC, V5 NC, V14 NC, V15 NC, V18 ~{PROGRAM} (in)

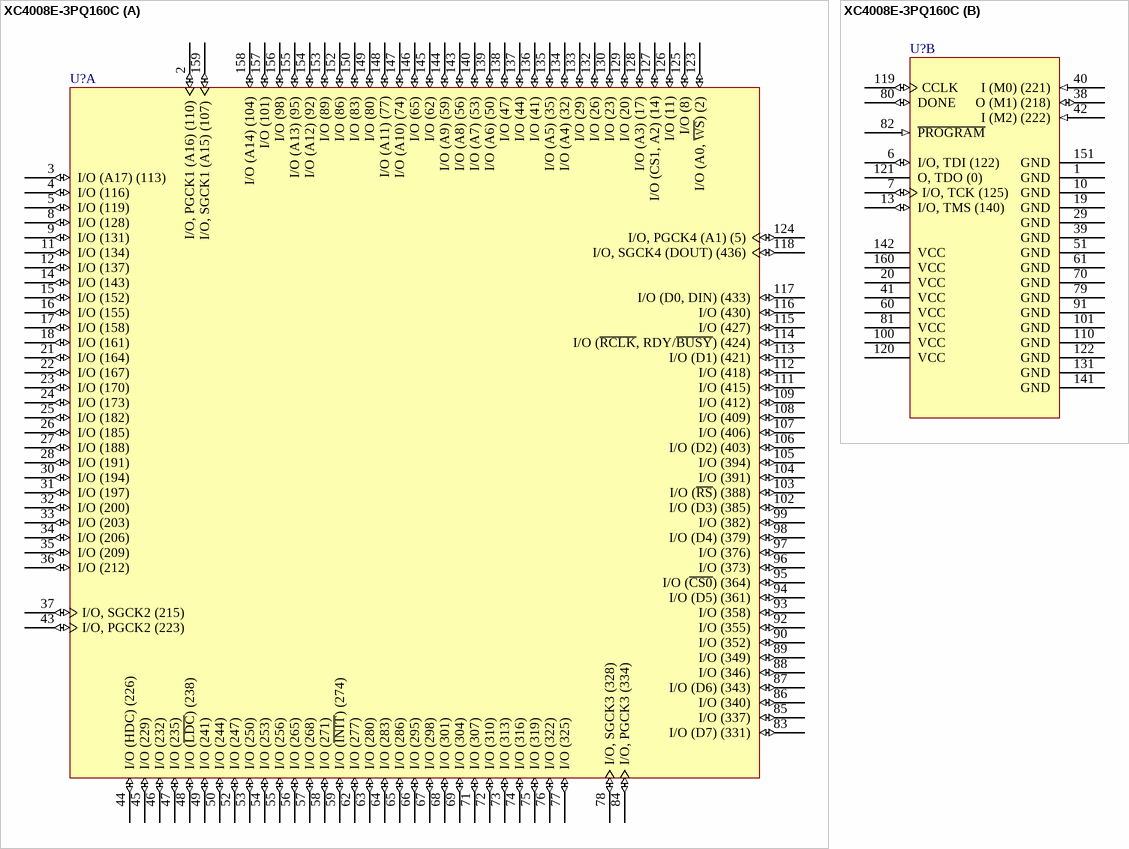
[diagram p82: symbol XC4008E-3PQ160C]

## XC4008E-3PQ160C
designator U?
XC4000E FPGA, 160-Pin PQFP, Commercial Grade; PackageDocument: ver1.1, Oct-2002; Published: 28-Feb-2003; DatasheetDocument: (v1.6) May-99; PackageReference: PQ160; Publisher: Altium Limited; Code_JEDEC: MS-022-DD1
footprint PQ160 (160-Pin Plastic Quad Flat Pack (PQ160))
part A pins: 2 I/O, PGCK1 (A16) (110) (io), 3 I/O (A17) (113) (io), 4 I/O (116) (io), 5 I/O (119) (io), 8 I/O (128) (io), 9 I/O (131) (io), 11 I/O (134) (io), 12 I/O (137) (io), 14 I/O (143) (io), 15 I/O (152) (io), 16 I/O (155) (io), 17 I/O (158) (io), 18 I/O (161) (io), 21 I/O (164) (io), 22 I/O (167) (io), 23 I/O (170) (io), 24 I/O (173) (io), 25 I/O (182) (io), 26 I/O (185) (io), 27 I/O (188) (io), 28 I/O (191) (io), 30 I/O (194) (io), 31 I/O (197) (io), 32 I/O (200) (io), 33 I/O (203) (io), 34 I/O (206) (io), 35 I/O (209) (io), 36 I/O (212) (io), 37 I/O, SGCK2 (215) (io), 43 I/O, PGCK2 (223) (io), 44 I/O (HDC) (226) (io), 45 I/O (229) (io), 46 I/O (232) (io), 47 I/O (235) (io), 48 I/O (~{LDC}) (238) (io), 49 I/O (241) (io), 50 I/O (244) (io), 52 I/O (247) (io), 53 I/O (250) (io), 54 I/O (253) (io), 55 I/O (256) (io), 56 I/O (265) (io), 57 I/O (268) (io), 58 I/O (271) (io), 59 I/O (~{INIT}) (274) (io), 62 I/O (277) (io), 63 I/O (280) (io), 64 I/O (283) (io), 65 I/O (286) (io), 66 I/O (295) (io), 67 I/O (298) (io), 68 I/O (301) (io), 69 I/O (304) (io), 71 I/O (307) (io), 72 I/O (310) (io), 73 I/O (313) (io), 74 I/O (316) (io), 75 I/O (319) (io), 76 I/O (322) (io), 77 I/O (325) (io), 78 I/O, SGCK3 (328) (io), 83 I/O (D7) (331) (io), 84 I/O, PGCK3 (334) (io), 85 I/O (337) (io), 86 I/O (340) (io), 87 I/O (D6) (343) (io), 88 I/O (346) (io), 89 I/O (349) (io), 90 I/O (352) (io), 92 I/O (355) (io), 93 I/O (358) (io), 94 I/O (D5) (361) (io), 95 I/O (~{CS0}) (364) (io), 96 I/O (373) (io), 97 I/O (376) (io), 98 I/O (D4) (379) (io), 99 I/O (382) (io), 102 I/O (D3) (385) (io), 103 I/O (~{RS}) (388) (io), 104 I/O (391) (io), 105 I/O (394) (io), 106 I/O (D2) (403) (io), 107 I/O (406) (io), 108 I/O (409) (io), 109 I/O (412) (io), 111 I/O (415) (io), 112 I/O (418) (io), 113 I/O (D1) (421) (io), 114 I/O (~{RCLK}, RDY/~{BUSY}) (424) (io), 115 I/O (427) (io), 116 I/O (430) (io), 117 I/O (D0, DIN) (433) (io), 118 I/O, SGCK4 (DOUT) (436) (io), 123 I/O (A0, ~{WS}) (2) (io), 124 I/O, PGCK4 (A1) (5) (io), 125 I/O (8) (io), 126 I/O (11) (io), 127 I/O (CS1, A2) (14) (io), 128 I/O (A3) (17) (io), 129 I/O (20) (io), 130 I/O (23) (io), 132 I/O (26) (io), 133 I/O (29) (io), 134 I/O (A4) (32) (io), 135 I/O (A5) (35) (io), 136 I/O (41) (io), 137 I/O (44) (io), 138 I/O (47) (io), 139 I/O (A6) (50) (io), 140 I/O (A7) (53) (io), 143 I/O (A8) (56) (io), 144 I/O (A9) (59) (io), 145 I/O (62) (io), 146 I/O (65) (io), 147 I/O (A10) (74) (io), 148 I/O (A11) (77) (io), 149 I/O (80) (io), 150 I/O (83) (io), 152 I/O (86) (io), 153 I/O (89) (io), 154 I/O (A12) (92) (io), 155 I/O (A13) (95) (io), 156 I/O (98) (io), 157 I/O (101) (io), 158 I/O (A14) (104) (io), 159 I/O, SGCK1 (A15) (107) (io)
part B pins: 1 GND (power), 6 I/O, TDI (122) (io), 7 I/O, TCK (125) (io), 10 GND (power), 13 I/O, TMS (140) (io), 19 GND (power), 20 VCC (power), 29 GND (power), 38 O (M1) (218) (io), 39 GND (power), 40 I (M0) (221) (in), 41 VCC (power), 42 I (M2) (222) (in), 51 GND (power), 60 VCC (power), 61 GND (power), 70 GND (power), 79 GND (power), 80 DONE (io), 81 VCC (power), 82 ~{PROGRAM} (in), 91 GND (power), 100 VCC (power), 101 GND (power), 110 GND (power), 119 CCLK (io), 120 VCC (power), 121 O, TDO (0) (hiz), 122 GND (power), 131 GND (power), 141 GND (power), 142 VCC (power), 151 GND (power), 160 VCC (power)

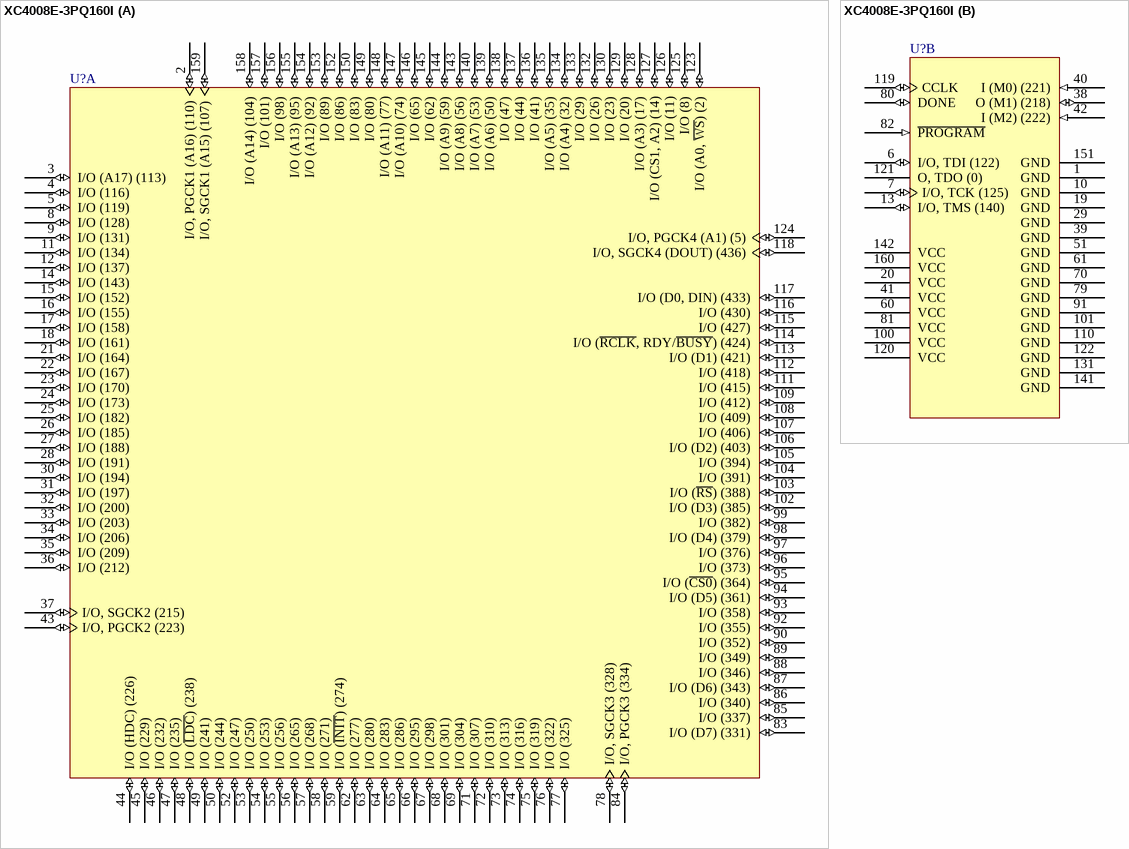
[diagram p83: symbol XC4008E-3PQ160I]

## XC4008E-3PQ160I
designator U?
XC4000E FPGA, 160-Pin PQFP, Industrial Grade; PackageDocument: ver1.1, Oct-2002; Published: 28-Feb-2003; DatasheetDocument: (v1.6) May-99; PackageReference: PQ160; Publisher: Altium Limited; Code_JEDEC: MS-022-DD1
footprint PQ160 (160-Pin Plastic Quad Flat Pack (PQ160))
part A pins: 2 I/O, PGCK1 (A16) (110) (io), 3 I/O (A17) (113) (io), 4 I/O (116) (io), 5 I/O (119) (io), 8 I/O (128) (io), 9 I/O (131) (io), 11 I/O (134) (io), 12 I/O (137) (io), 14 I/O (143) (io), 15 I/O (152) (io), 16 I/O (155) (io), 17 I/O (158) (io), 18 I/O (161) (io), 21 I/O (164) (io), 22 I/O (167) (io), 23 I/O (170) (io), 24 I/O (173) (io), 25 I/O (182) (io), 26 I/O (185) (io), 27 I/O (188) (io), 28 I/O (191) (io), 30 I/O (194) (io), 31 I/O (197) (io), 32 I/O (200) (io), 33 I/O (203) (io), 34 I/O (206) (io), 35 I/O (209) (io), 36 I/O (212) (io), 37 I/O, SGCK2 (215) (io), 43 I/O, PGCK2 (223) (io), 44 I/O (HDC) (226) (io), 45 I/O (229) (io), 46 I/O (232) (io), 47 I/O (235) (io), 48 I/O (~{LDC}) (238) (io), 49 I/O (241) (io), 50 I/O (244) (io), 52 I/O (247) (io), 53 I/O (250) (io), 54 I/O (253) (io), 55 I/O (256) (io), 56 I/O (265) (io), 57 I/O (268) (io), 58 I/O (271) (io), 59 I/O (~{INIT}) (274) (io), 62 I/O (277) (io), 63 I/O (280) (io), 64 I/O (283) (io), 65 I/O (286) (io), 66 I/O (295) (io), 67 I/O (298) (io), 68 I/O (301) (io), 69 I/O (304) (io), 71 I/O (307) (io), 72 I/O (310) (io), 73 I/O (313) (io), 74 I/O (316) (io), 75 I/O (319) (io), 76 I/O (322) (io), 77 I/O (325) (io), 78 I/O, SGCK3 (328) (io), 83 I/O (D7) (331) (io), 84 I/O, PGCK3 (334) (io), 85 I/O (337) (io), 86 I/O (340) (io), 87 I/O (D6) (343) (io), 88 I/O (346) (io), 89 I/O (349) (io), 90 I/O (352) (io), 92 I/O (355) (io), 93 I/O (358) (io), 94 I/O (D5) (361) (io), 95 I/O (~{CS0}) (364) (io), 96 I/O (373) (io), 97 I/O (376) (io), 98 I/O (D4) (379) (io), 99 I/O (382) (io), 102 I/O (D3) (385) (io), 103 I/O (~{RS}) (388) (io), 104 I/O (391) (io), 105 I/O (394) (io), 106 I/O (D2) (403) (io), 107 I/O (406) (io), 108 I/O (409) (io), 109 I/O (412) (io), 111 I/O (415) (io), 112 I/O (418) (io), 113 I/O (D1) (421) (io), 114 I/O (~{RCLK}, RDY/~{BUSY}) (424) (io), 115 I/O (427) (io), 116 I/O (430) (io), 117 I/O (D0, DIN) (433) (io), 118 I/O, SGCK4 (DOUT) (436) (io), 123 I/O (A0, ~{WS}) (2) (io), 124 I/O, PGCK4 (A1) (5) (io), 125 I/O (8) (io), 126 I/O (11) (io), 127 I/O (CS1, A2) (14) (io), 128 I/O (A3) (17) (io), 129 I/O (20) (io), 130 I/O (23) (io), 132 I/O (26) (io), 133 I/O (29) (io), 134 I/O (A4) (32) (io), 135 I/O (A5) (35) (io), 136 I/O (41) (io), 137 I/O (44) (io), 138 I/O (47) (io), 139 I/O (A6) (50) (io), 140 I/O (A7) (53) (io), 143 I/O (A8) (56) (io), 144 I/O (A9) (59) (io), 145 I/O (62) (io), 146 I/O (65) (io), 147 I/O (A10) (74) (io), 148 I/O (A11) (77) (io), 149 I/O (80) (io), 150 I/O (83) (io), 152 I/O (86) (io), 153 I/O (89) (io), 154 I/O (A12) (92) (io), 155 I/O (A13) (95) (io), 156 I/O (98) (io), 157 I/O (101) (io), 158 I/O (A14) (104) (io), 159 I/O, SGCK1 (A15) (107) (io)
part B pins: 1 GND (power), 6 I/O, TDI (122) (io), 7 I/O, TCK (125) (io), 10 GND (power), 13 I/O, TMS (140) (io), 19 GND (power), 20 VCC (power), 29 GND (power), 38 O (M1) (218) (io), 39 GND (power), 40 I (M0) (221) (in), 41 VCC (power), 42 I (M2) (222) (in), 51 GND (power), 60 VCC (power), 61 GND (power), 70 GND (power), 79 GND (power), 80 DONE (io), 81 VCC (power), 82 ~{PROGRAM} (in), 91 GND (power), 100 VCC (power), 101 GND (power), 110 GND (power), 119 CCLK (io), 120 VCC (power), 121 O, TDO (0) (hiz), 122 GND (power), 131 GND (power), 141 GND (power), 142 VCC (power), 151 GND (power), 160 VCC (power)

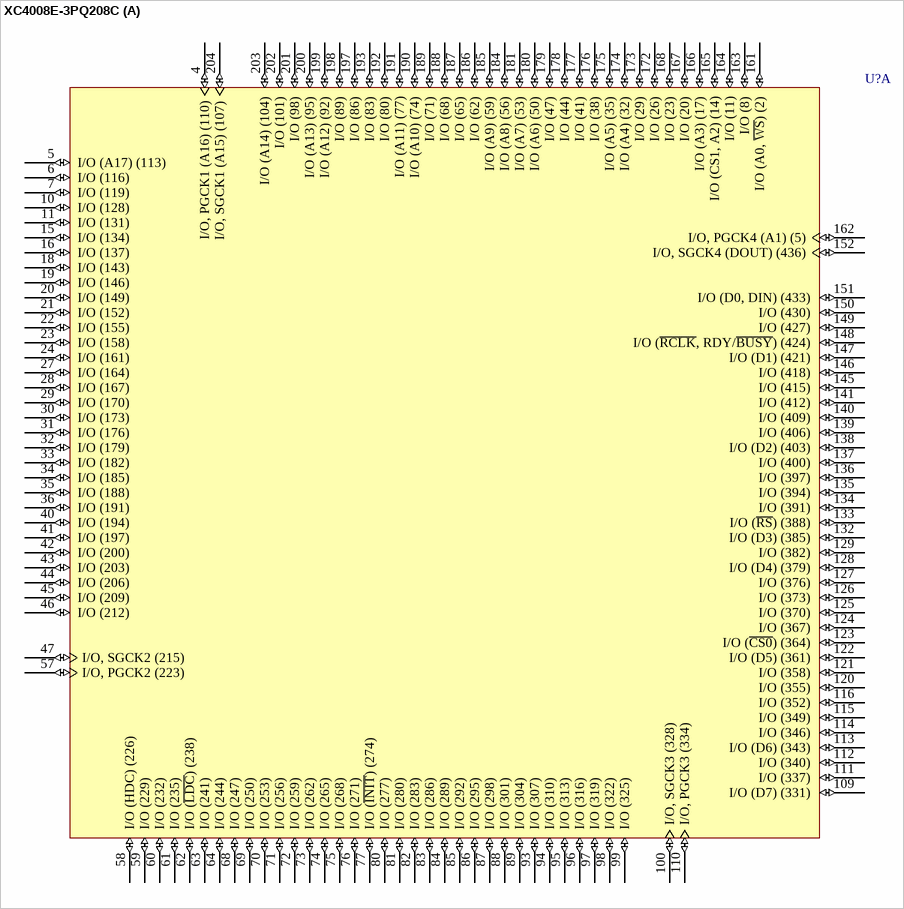
[diagram p84: symbol XC4008E-3PQ208C]

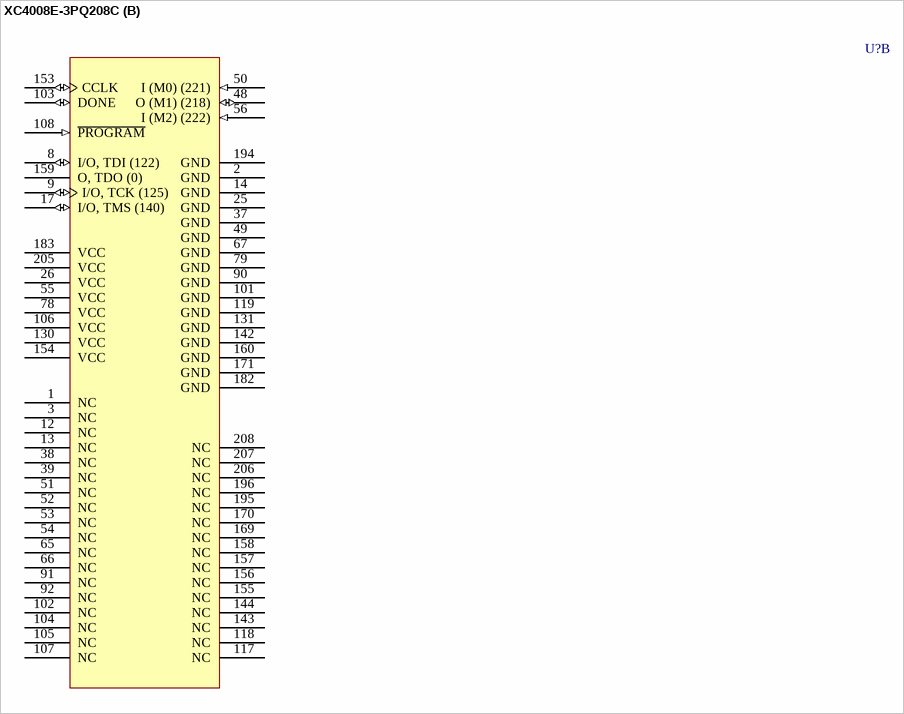
[diagram p85: symbol XC4008E-3PQ208C]

## XC4008E-3PQ208C
designator U?
XC4000E FPGA, 208-Pin PQFP, Commercial Grade; PackageDocument: ver1.1, Oct-2002; Published: 28-Feb-2003; DatasheetDocument: (v1.6) May-99; PackageReference: PQ208; Publisher: Altium Limited; Code_JEDEC: MS-029-FA-1
footprint PQ208 (208-Pin Plastic Quad Flat Pack (PQ208))
part A pins: 4 I/O, PGCK1 (A16) (110) (io), 5 I/O (A17) (113) (io), 6 I/O (116) (io), 7 I/O (119) (io), 10 I/O (128) (io), 11 I/O (131) (io), 15 I/O (134) (io), 16 I/O (137) (io), 18 I/O (143) (io), 19 I/O (146) (io), 20 I/O (149) (io), 21 I/O (152) (io), 22 I/O (155) (io), 23 I/O (158) (io), 24 I/O (161) (io), 27 I/O (164) (io), 28 I/O (167) (io), 29 I/O (170) (io), 30 I/O (173) (io), 31 I/O (176) (io), 32 I/O (179) (io), 33 I/O (182) (io), 34 I/O (185) (io), 35 I/O (188) (io), 36 I/O (191) (io), 40 I/O (194) (io), 41 I/O (197) (io), 42 I/O (200) (io), 43 I/O (203) (io), 44 I/O (206) (io), 45 I/O (209) (io), 46 I/O (212) (io), 47 I/O, SGCK2 (215) (io), 57 I/O, PGCK2 (223) (io), 58 I/O (HDC) (226) (io), 59 I/O (229) (io), 60 I/O (232) (io), 61 I/O (235) (io), 62 I/O (~{LDC}) (238) (io), 63 I/O (241) (io), 64 I/O (244) (io), 68 I/O (247) (io), 69 I/O (250) (io), 70 I/O (253) (io), 71 I/O (256) (io), 72 I/O (259) (io), 73 I/O (262) (io), 74 I/O (265) (io), 75 I/O (268) (io), 76 I/O (271) (io), 77 I/O (~{INIT}) (274) (io), 80 I/O (277) (io), 81 I/O (280) (io), 82 I/O (283) (io), 83 I/O (286) (io), 84 I/O (289) (io), 85 I/O (292) (io), 86 I/O (295) (io), 87 I/O (298) (io), 88 I/O (301) (io), 89 I/O (304) (io), 93 I/O (307) (io), 94 I/O (310) (io), 95 I/O (313) (io), 96 I/O (316) (io), 97 I/O (319) (io), 98 I/O (322) (io), 99 I/O (325) (io), 100 I/O, SGCK3 (328) (io), 109 I/O (D7) (331) (io), 110 I/O, PGCK3 (334) (io), 111 I/O (337) (io), 112 I/O (340) (io), 113 I/O (D6) (343) (io), 114 I/O (346) (io), 115 I/O (349) (io), 116 I/O (352) (io), 120 I/O (355) (io), 121 I/O (358) (io), 122 I/O (D5) (361) (io), 123 I/O (~{CS0}) (364) (io), 124 I/O (367) (io), 125 I/O (370) (io), 126 I/O (373) (io), 127 I/O (376) (io), 128 I/O (D4) (379) (io), 129 I/O (382) (io), 132 I/O (D3) (385) (io), 133 I/O (~{RS}) (388) (io), 134 I/O (391) (io), 135 I/O (394) (io), 136 I/O (397) (io), 137 I/O (400) (io), 138 I/O (D2) (403) (io), 139 I/O (406) (io), 140 I/O (409) (io), 141 I/O (412) (io), 145 I/O (415) (io), 146 I/O (418) (io), 147 I/O (D1) (421) (io), 148 I/O (~{RCLK}, RDY/~{BUSY}) (424) (io), 149 I/O (427) (io), 150 I/O (430) (io), 151 I/O (D0, DIN) (433) (io), 152 I/O, SGCK4 (DOUT) (436) (io), 161 I/O (A0, ~{WS}) (2) (io), 162 I/O, PGCK4 (A1) (5) (io), 163 I/O (8) (io), 164 I/O (11) (io), 165 I/O (CS1, A2) (14) (io), 166 I/O (A3) (17) (io), 167 I/O (20) (io), 168 I/O (23) (io), 172 I/O (26) (io), 173 I/O (29) (io), 174 I/O (A4) (32) (io), 175 I/O (A5) (35) (io), 176 I/O (38) (io), 177 I/O (41) (io), 178 I/O (44) (io), 179 I/O (47) (io), 180 I/O (A6) (50) (io), 181 I/O (A7) (53) (io), 184 I/O (A8) (56) (io), 185 I/O (A9) (59) (io), 186 I/O (62) (io), 187 I/O (65) (io), 188 I/O (68) (io), 189 I/O (71) (io), 190 I/O (A10) (74) (io), 191 I/O (A11) (77) (io), 192 I/O (80) (io), 193 I/O (83) (io), 197 I/O (86) (io), 198 I/O (89) (io), 199 I/O (A12) (92) (io), 200 I/O (A13) (95) (io), 201 I/O (98) (io), 202 I/O (101) (io), 203 I/O (A14) (104) (io), 204 I/O, SGCK1 (A15) (107) (io)
part B pins: 1 NC, 2 GND (power), 3 NC, 8 I/O, TDI (122) (io), 9 I/O, TCK (125) (io), 12 NC, 13 NC, 14 GND (power), 17 I/O, TMS (140) (io), 25 GND (power), 26 VCC (power), 37 GND (power), 38 NC, 39 NC, 48 O (M1) (218) (io), 49 GND (power), 50 I (M0) (221) (in), 51 NC, 52 NC, 53 NC, 54 NC, 55 VCC (power), 56 I (M2) (222) (in), 65 NC, 66 NC, 67 GND (power), 78 VCC (power), 79 GND (power), 90 GND (power), 91 NC, 92 NC, 101 GND (power), 102 NC, 103 DONE (io), 104 NC, 105 NC, 106 VCC (power), 107 NC, 108 ~{PROGRAM} (in), 117 NC, 118 NC, 119 GND (power), 130 VCC (power), 131 GND (power), 142 GND (power), 143 NC, 144 NC, 153 CCLK (io), 154 VCC (power), 155 NC, 156 NC, 157 NC, 158 NC, 159 O, TDO (0) (hiz), 160 GND (power), 169 NC, 170 NC, 171 GND (power), 182 GND (power), 183 VCC (power), 194 GND (power), 195 NC, 196 NC, 205 VCC (power), 206 NC, 207 NC, 208 NC

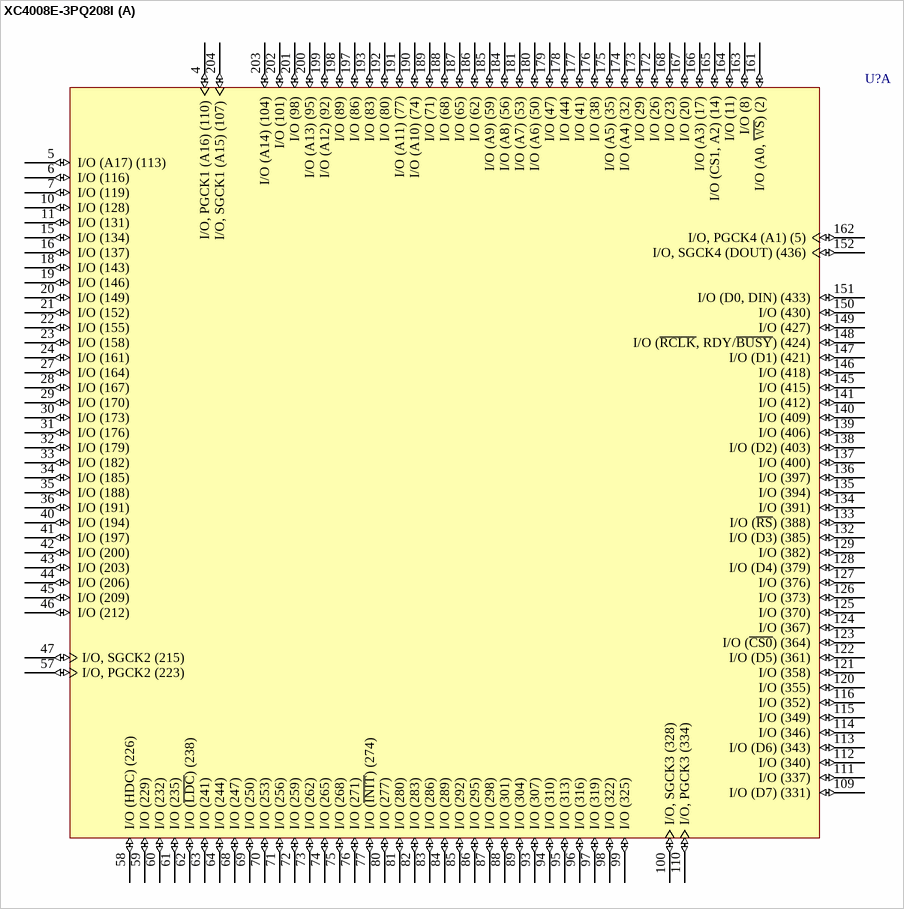
[diagram p86: symbol XC4008E-3PQ208I]

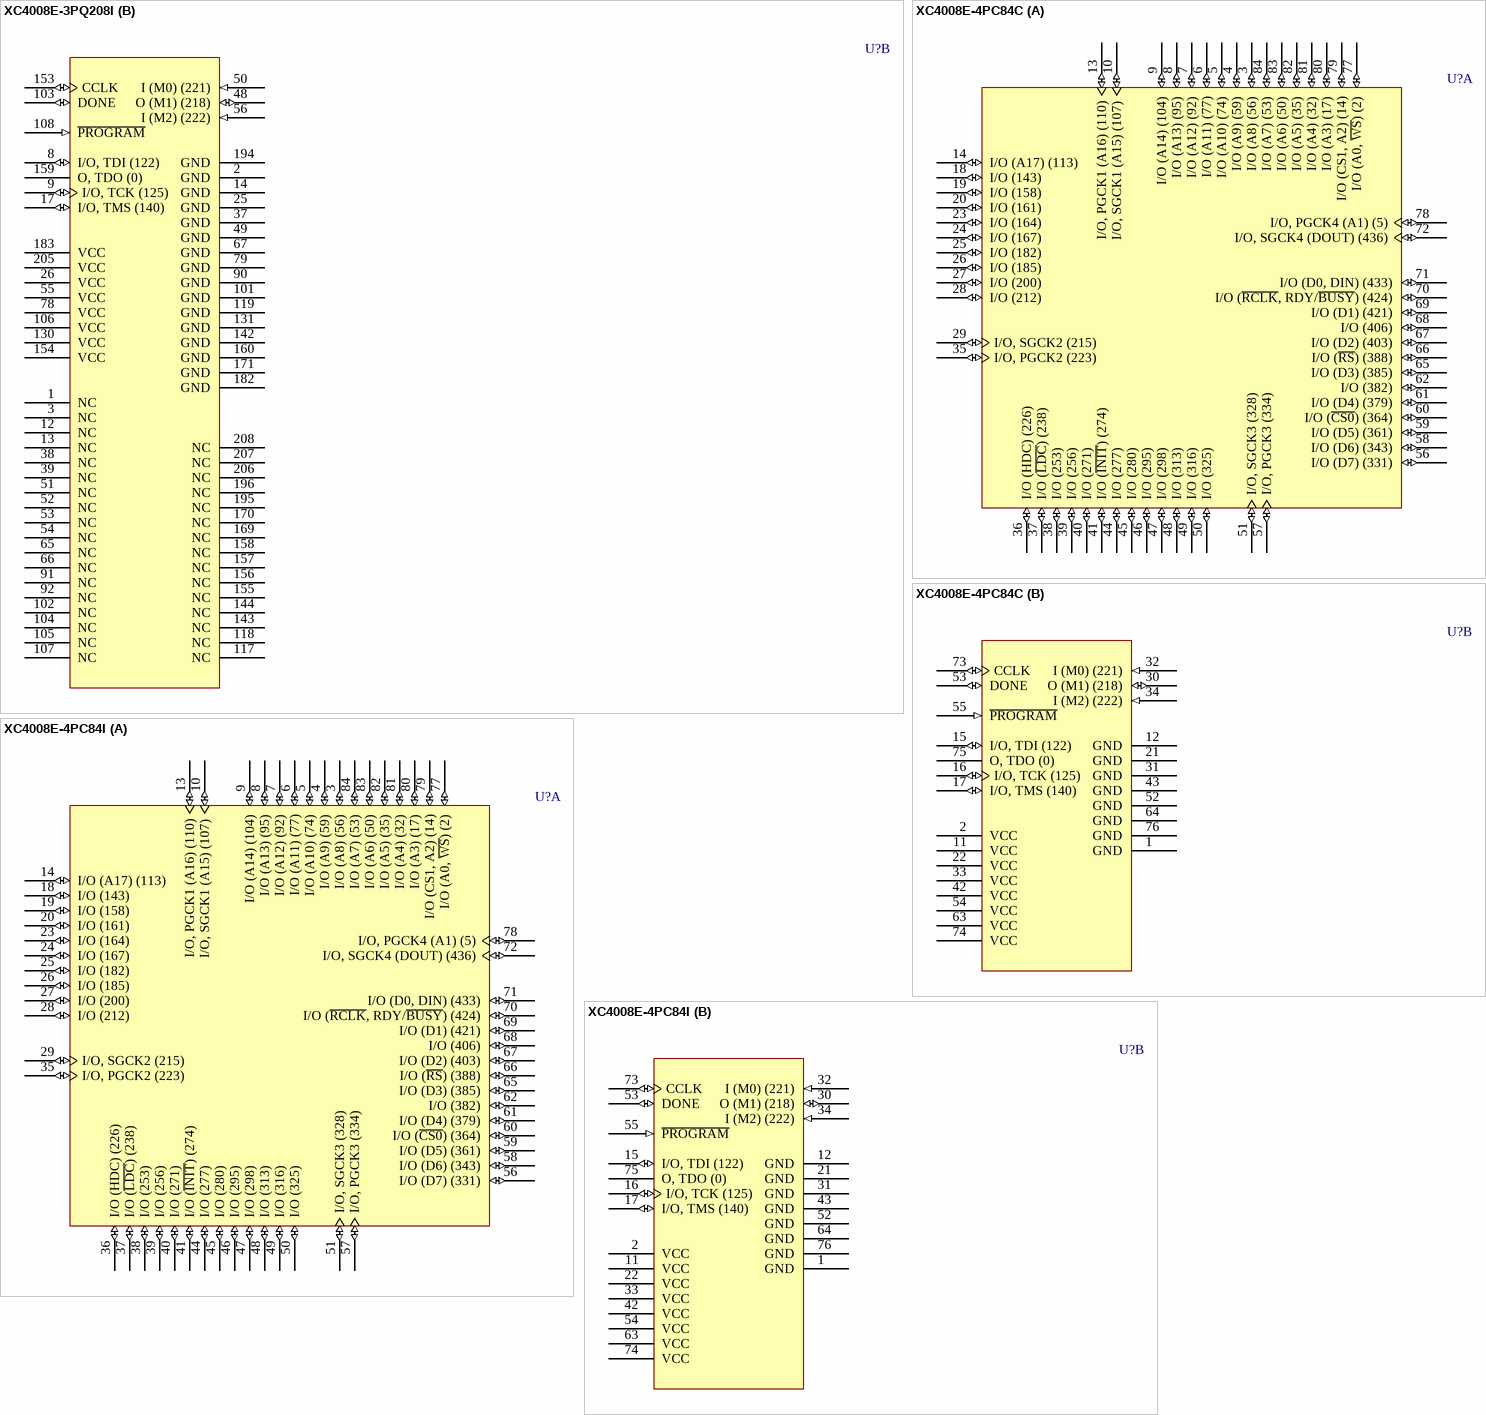
[diagram p87: symbols XC4008E-3PQ208I to XC4008E-4PC84I]

## XC4008E-3PQ208I
designator U?
XC4000E FPGA, 208-Pin PQFP, Industrial Grade; PackageDocument: ver1.1, Oct-2002; Published: 28-Feb-2003; DatasheetDocument: (v1.6) May-99; PackageReference: PQ208; Publisher: Altium Limited; Code_JEDEC: MS-029-FA-1
footprint PQ208 (208-Pin Plastic Quad Flat Pack (PQ208))
part A pins: 4 I/O, PGCK1 (A16) (110) (io), 5 I/O (A17) (113) (io), 6 I/O (116) (io), 7 I/O (119) (io), 10 I/O (128) (io), 11 I/O (131) (io), 15 I/O (134) (io), 16 I/O (137) (io), 18 I/O (143) (io), 19 I/O (146) (io), 20 I/O (149) (io), 21 I/O (152) (io), 22 I/O (155) (io), 23 I/O (158) (io), 24 I/O (161) (io), 27 I/O (164) (io), 28 I/O (167) (io), 29 I/O (170) (io), 30 I/O (173) (io), 31 I/O (176) (io), 32 I/O (179) (io), 33 I/O (182) (io), 34 I/O (185) (io), 35 I/O (188) (io), 36 I/O (191) (io), 40 I/O (194) (io), 41 I/O (197) (io), 42 I/O (200) (io), 43 I/O (203) (io), 44 I/O (206) (io), 45 I/O (209) (io), 46 I/O (212) (io), 47 I/O, SGCK2 (215) (io), 57 I/O, PGCK2 (223) (io), 58 I/O (HDC) (226) (io), 59 I/O (229) (io), 60 I/O (232) (io), 61 I/O (235) (io), 62 I/O (~{LDC}) (238) (io), 63 I/O (241) (io), 64 I/O (244) (io), 68 I/O (247) (io), 69 I/O (250) (io), 70 I/O (253) (io), 71 I/O (256) (io), 72 I/O (259) (io), 73 I/O (262) (io), 74 I/O (265) (io), 75 I/O (268) (io), 76 I/O (271) (io), 77 I/O (~{INIT}) (274) (io), 80 I/O (277) (io), 81 I/O (280) (io), 82 I/O (283) (io), 83 I/O (286) (io), 84 I/O (289) (io), 85 I/O (292) (io), 86 I/O (295) (io), 87 I/O (298) (io), 88 I/O (301) (io), 89 I/O (304) (io), 93 I/O (307) (io), 94 I/O (310) (io), 95 I/O (313) (io), 96 I/O (316) (io), 97 I/O (319) (io), 98 I/O (322) (io), 99 I/O (325) (io), 100 I/O, SGCK3 (328) (io), 109 I/O (D7) (331) (io), 110 I/O, PGCK3 (334) (io), 111 I/O (337) (io), 112 I/O (340) (io), 113 I/O (D6) (343) (io), 114 I/O (346) (io), 115 I/O (349) (io), 116 I/O (352) (io), 120 I/O (355) (io), 121 I/O (358) (io), 122 I/O (D5) (361) (io), 123 I/O (~{CS0}) (364) (io), 124 I/O (367) (io), 125 I/O (370) (io), 126 I/O (373) (io), 127 I/O (376) (io), 128 I/O (D4) (379) (io), 129 I/O (382) (io), 132 I/O (D3) (385) (io), 133 I/O (~{RS}) (388) (io), 134 I/O (391) (io), 135 I/O (394) (io), 136 I/O (397) (io), 137 I/O (400) (io), 138 I/O (D2) (403) (io), 139 I/O (406) (io), 140 I/O (409) (io), 141 I/O (412) (io), 145 I/O (415) (io), 146 I/O (418) (io), 147 I/O (D1) (421) (io), 148 I/O (~{RCLK}, RDY/~{BUSY}) (424) (io), 149 I/O (427) (io), 150 I/O (430) (io), 151 I/O (D0, DIN) (433) (io), 152 I/O, SGCK4 (DOUT) (436) (io), 161 I/O (A0, ~{WS}) (2) (io), 162 I/O, PGCK4 (A1) (5) (io), 163 I/O (8) (io), 164 I/O (11) (io), 165 I/O (CS1, A2) (14) (io), 166 I/O (A3) (17) (io), 167 I/O (20) (io), 168 I/O (23) (io), 172 I/O (26) (io), 173 I/O (29) (io), 174 I/O (A4) (32) (io), 175 I/O (A5) (35) (io), 176 I/O (38) (io), 177 I/O (41) (io), 178 I/O (44) (io), 179 I/O (47) (io), 180 I/O (A6) (50) (io), 181 I/O (A7) (53) (io), 184 I/O (A8) (56) (io), 185 I/O (A9) (59) (io), 186 I/O (62) (io), 187 I/O (65) (io), 188 I/O (68) (io), 189 I/O (71) (io), 190 I/O (A10) (74) (io), 191 I/O (A11) (77) (io), 192 I/O (80) (io), 193 I/O (83) (io), 197 I/O (86) (io), 198 I/O (89) (io), 199 I/O (A12) (92) (io), 200 I/O (A13) (95) (io), 201 I/O (98) (io), 202 I/O (101) (io), 203 I/O (A14) (104) (io), 204 I/O, SGCK1 (A15) (107) (io)
part B pins: 1 NC, 2 GND (power), 3 NC, 8 I/O, TDI (122) (io), 9 I/O, TCK (125) (io), 12 NC, 13 NC, 14 GND (power), 17 I/O, TMS (140) (io), 25 GND (power), 26 VCC (power), 37 GND (power), 38 NC, 39 NC, 48 O (M1) (218) (io), 49 GND (power), 50 I (M0) (221) (in), 51 NC, 52 NC, 53 NC, 54 NC, 55 VCC (power), 56 I (M2) (222) (in), 65 NC, 66 NC, 67 GND (power), 78 VCC (power), 79 GND (power), 90 GND (power), 91 NC, 92 NC, 101 GND (power), 102 NC, 103 DONE (io), 104 NC, 105 NC, 106 VCC (power), 107 NC, 108 ~{PROGRAM} (in), 117 NC, 118 NC, 119 GND (power), 130 VCC (power), 131 GND (power), 142 GND (power), 143 NC, 144 NC, 153 CCLK (io), 154 VCC (power), 155 NC, 156 NC, 157 NC, 158 NC, 159 O, TDO (0) (hiz), 160 GND (power), 169 NC, 170 NC, 171 GND (power), 182 GND (power), 183 VCC (power), 194 GND (power), 195 NC, 196 NC, 205 VCC (power), 206 NC, 207 NC, 208 NC